# Altium schematic symbol library maxim.SCHLIB: 502 symbols (part 2 of 4)
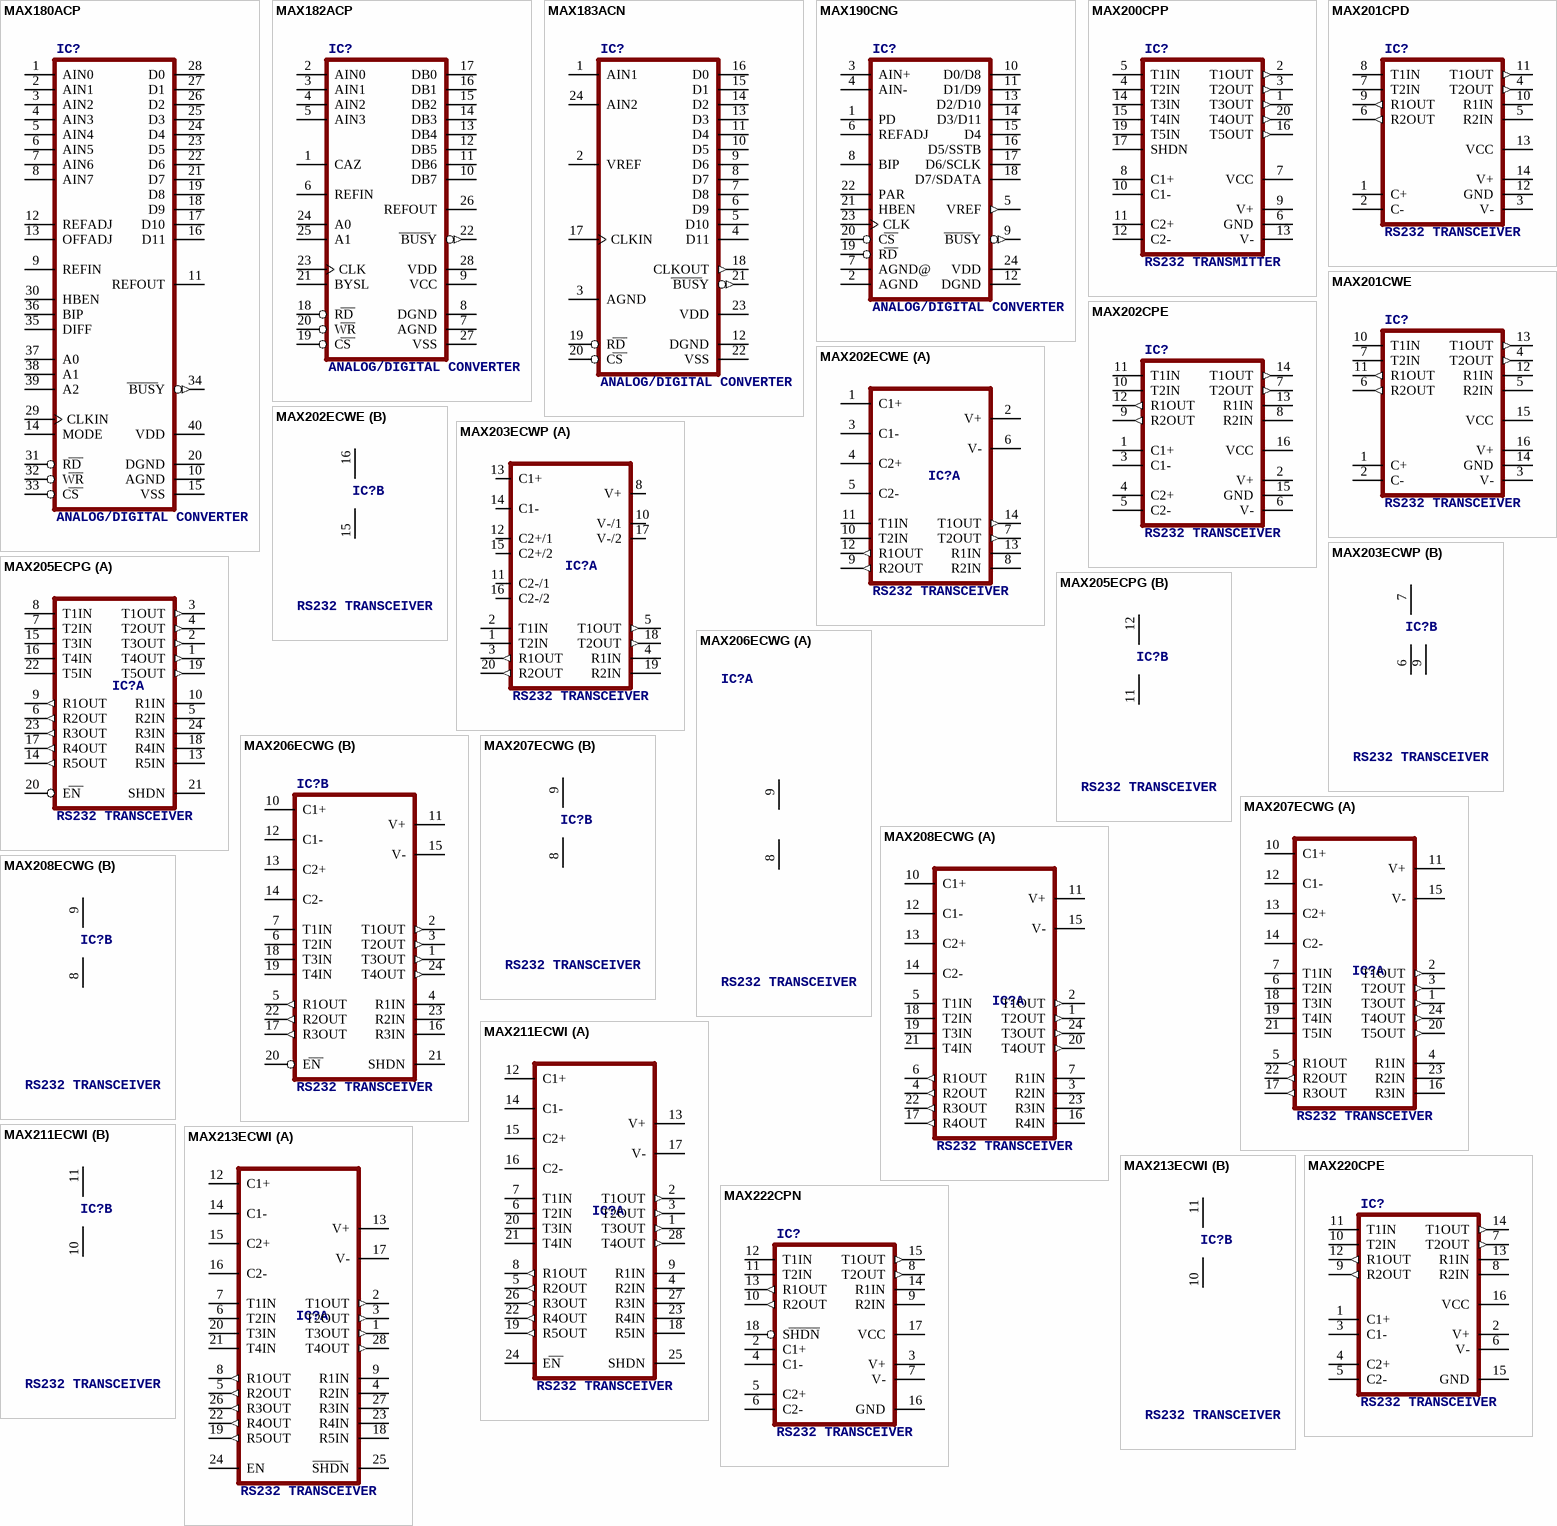
[diagram p31: symbols MAX180ACP to MAX222CPN]

## MAX200CPP
designator IC?, comment RS232 TRANSMITTER
OC_FARNELL: unknown; OC_NEWARK: unknown
footprint DIL20
pins: 1 T3OUT (out), 2 T1OUT (out), 3 T2OUT (out), 4 T2IN, 5 T1IN, 6 GND (power), 7 VCC (power), 8 C1+, 9 V+ (oe), 10 C1-, 11 C2+, 12 C2-, 13 V- (oe), 14 T3IN, 15 T4IN, 16 T5OUT (out), 17 SHDN, 19 T5IN, 20 T4OUT (out)

## MAX201CPD
designator IC?, comment RS232 TRANSCEIVER
MPN: MAX201CPD+; OC_FARNELL: unknown; OC_NEWARK: 89K3430
footprint DIL14
pins: 1 C+, 2 C-, 3 V- (oe), 4 T2OUT (out), 5 R2IN, 6 R2OUT (out), 7 T2IN, 8 T1IN, 9 R1OUT (out), 10 R1IN, 11 T1OUT (out), 12 GND (power), 13 VCC (power), 14 V+ (oe)

## MAX201CWE
designator IC?, comment RS232 TRANSCEIVER
MPN: MAX201CWE+; MF: MAXIM; OC_FARNELL: 1836338; OC_NEWARK: 23K5792
footprint SO16L
pins: 1 C+, 2 C-, 3 V- (oe), 4 T2OUT (out), 5 R2IN, 6 R2OUT (out), 7 T2IN, 10 T1IN, 11 R1OUT (out), 12 R1IN, 13 T1OUT (out), 14 GND (power), 15 VCC (power), 16 V+ (oe)

## MAX202CPE
designator IC?, comment RS232 TRANSCEIVER
MPN: MAX202CPE+; MF: MAXIM; OC_FARNELL: 9723803; OC_NEWARK: 68K4531
footprint DIL16
pins: 1 C1+, 2 V+ (oe), 3 C1-, 4 C2+, 5 C2-, 6 V- (oe), 7 T2OUT (out), 8 R2IN, 9 R2OUT (out), 10 T2IN, 11 T1IN, 12 R1OUT (out), 13 R1IN, 14 T1OUT (out), 15 GND (power), 16 VCC (power)

## MAX202ECWE
designator IC?, comment RS232 TRANSCEIVER
MPN: MAX202ECWE+T; OC_FARNELL: 9724419; OC_NEWARK: 67K4364
footprint SO16L
part A pins: 1 C1+, 2 V+, 3 C1-, 4 C2+, 5 C2-, 6 V-, 7 T2OUT (out), 8 R2IN, 9 R2OUT (out), 10 T2IN, 11 T1IN, 12 R1OUT (out), 13 R1IN, 14 T1OUT (out)
part B pins: 15 GND (power), 16 VCC (power)

## MAX203ECWP
designator IC?, comment RS232 TRANSCEIVER
MPN: MAX203ECWP+G36; OC_FARNELL: 1224204; OC_NEWARK: 89K3435
footprint SO20L
part A pins: 1 T2IN, 2 T1IN, 3 R1OUT (out), 4 R1IN, 5 T1OUT (out), 8 V+, 10 V-/1, 11 C2-/1, 12 C2+/1, 13 C1+, 14 C1-, 15 C2+/2, 16 C2-/2, 17 V-/2, 18 T2OUT (out), 19 R2IN, 20 R2OUT (out)
part B pins: 6 GND@1 (power), 7 VCC (power), 9 GND@2 (power)

## MAX205ECPG
designator IC?, comment RS232 TRANSCEIVER
MPN: MAX205ECPG; OC_FARNELL: unknown; OC_NEWARK: 77C8455
footprint DIL24-6
part A pins: 1 T4OUT (out), 2 T3OUT (out), 3 T1OUT (out), 4 T2OUT (out), 5 R2IN, 6 R2OUT (out), 7 T2IN, 8 T1IN, 9 R1OUT (out), 10 R1IN, 13 R5IN, 14 R5OUT (out), 15 T3IN, 16 T4IN, 17 R4OUT (out), 18 R4IN, 19 T5OUT (out), 20 EN, 21 SHDN, 22 T5IN, 23 R3OUT (out), 24 R3IN
part B pins: 11 GND (power), 12 VCC (power)

## MAX206ECWG
designator IC?, comment RS232 TRANSCEIVER
MPN: MAX206ECWG+; MF: MAXIM; OC_FARNELL: unknown; OC_NEWARK: 59J2964
footprint SO24L
part A pins: 8 GND (power), 9 VCC (power)
part B pins: 1 T3OUT (out), 2 T1OUT (out), 3 T2OUT (out), 4 R1IN, 5 R1OUT (out), 6 T2IN, 7 T1IN, 10 C1+, 11 V+, 12 C1-, 13 C2+, 14 C2-, 15 V-, 16 R3IN, 17 R3OUT (out), 18 T3IN, 19 T4IN, 20 EN, 21 SHDN, 22 R2OUT (out), 23 R2IN, 24 T4OUT (out)

## MAX207ECWG
designator IC?, comment RS232 TRANSCEIVER
MPN: MAX207ECWG+; MF: MAXIM; OC_FARNELL: unknown; OC_NEWARK: 28K3258
footprint SO24L
part A pins: 1 T3OUT (out), 2 T1OUT (out), 3 T2OUT (out), 4 R1IN, 5 R1OUT (out), 6 T2IN, 7 T1IN, 10 C1+, 11 V+, 12 C1-, 13 C2+, 14 C2-, 15 V-, 16 R3IN, 17 R3OUT (out), 18 T3IN, 19 T4IN, 20 T5OUT (out), 21 T5IN, 22 R2OUT (out), 23 R2IN, 24 T4OUT (out)
part B pins: 8 GND (power), 9 VCC (power)

## MAX208ECWG
designator IC?, comment RS232 TRANSCEIVER
MPN: MAX208ECWG+; OC_FARNELL: unknown; OC_NEWARK: 67K4386
footprint SO24L
part A pins: 1 T2OUT (out), 2 T1OUT (out), 3 R2IN, 4 R2OUT (out), 5 T1IN, 6 R1OUT (out), 7 R1IN, 10 C1+, 11 V+, 12 C1-, 13 C2+, 14 C2-, 15 V-, 16 R4IN, 17 R4OUT (out), 18 T2IN, 19 T3IN, 20 T4OUT (out), 21 T4IN, 22 R3OUT (out), 23 R3IN, 24 T3OUT (out)
part B pins: 8 GND (power), 9 VCC (power)

## MAX211ECWI
designator IC?, comment RS232 TRANSCEIVER
MPN: MAX211ECWI+T; OC_FARNELL: unknown; OC_NEWARK: 67K4400
footprint SO28L
part A pins: 1 T3OUT (out), 2 T1OUT (out), 3 T2OUT (out), 4 R2IN, 5 R2OUT (out), 6 T2IN, 7 T1IN, 8 R1OUT (out), 9 R1IN, 12 C1+, 13 V+, 14 C1-, 15 C2+, 16 C2-, 17 V-, 18 R5IN, 19 R5OUT (out), 20 T3IN, 21 T4IN, 22 R4OUT (out), 23 R4IN, 24 EN, 25 SHDN, 26 R3OUT (out), 27 R3IN, 28 T4OUT (out)
part B pins: 10 GND (power), 11 VCC (power)

## MAX213ECWI
designator IC?, comment RS232 TRANSCEIVER
MPN: MAX213ECWI+; MF: MAXIM; OC_FARNELL: unknown; OC_NEWARK: 23K5828
footprint SO28L
part A pins: 1 T3OUT (out), 2 T1OUT (out), 3 T2OUT (out), 4 R2IN, 5 R2OUT (out), 6 T2IN, 7 T1IN, 8 R1OUT (out), 9 R1IN, 12 C1+, 13 V+, 14 C1-, 15 C2+, 16 C2-, 17 V-, 18 R5IN, 19 R5OUT (out), 20 T3IN, 21 T4IN, 22 R4OUT (out), 23 R4IN, 24 EN, 25 SHDN, 26 R3OUT (out), 27 R3IN, 28 T4OUT (out)
part B pins: 10 GND (power), 11 VCC (power)

## MAX220CPE
designator IC?, comment RS232 TRANSCEIVER
MPN: MAX220CPE+; OC_FARNELL: 1187947; OC_NEWARK: 99K3108
footprint DIL16
pins: 1 C1+, 2 V+ (oe), 3 C1-, 4 C2+, 5 C2-, 6 V- (oe), 7 T2OUT (out), 8 R2IN, 9 R2OUT (out), 10 T2IN, 11 T1IN, 12 R1OUT (out), 13 R1IN, 14 T1OUT (out), 15 GND (power), 16 VCC (power)

## MAX222CPN
designator IC?, comment RS232 TRANSCEIVER
MPN: MAX222CPN+; OC_FARNELL: 1187926; OC_NEWARK: 76K6649
footprint DIL18
pins: 2 C1+, 3 V+ (oe), 4 C1-, 5 C2+, 6 C2-, 7 V- (oe), 8 T2OUT (out), 9 R2IN, 10 R2OUT (out), 11 T2IN, 12 T1IN, 13 R1OUT (out), 14 R1IN, 15 T1OUT (out), 16 GND (power), 17 VCC (power), 18 SHDN

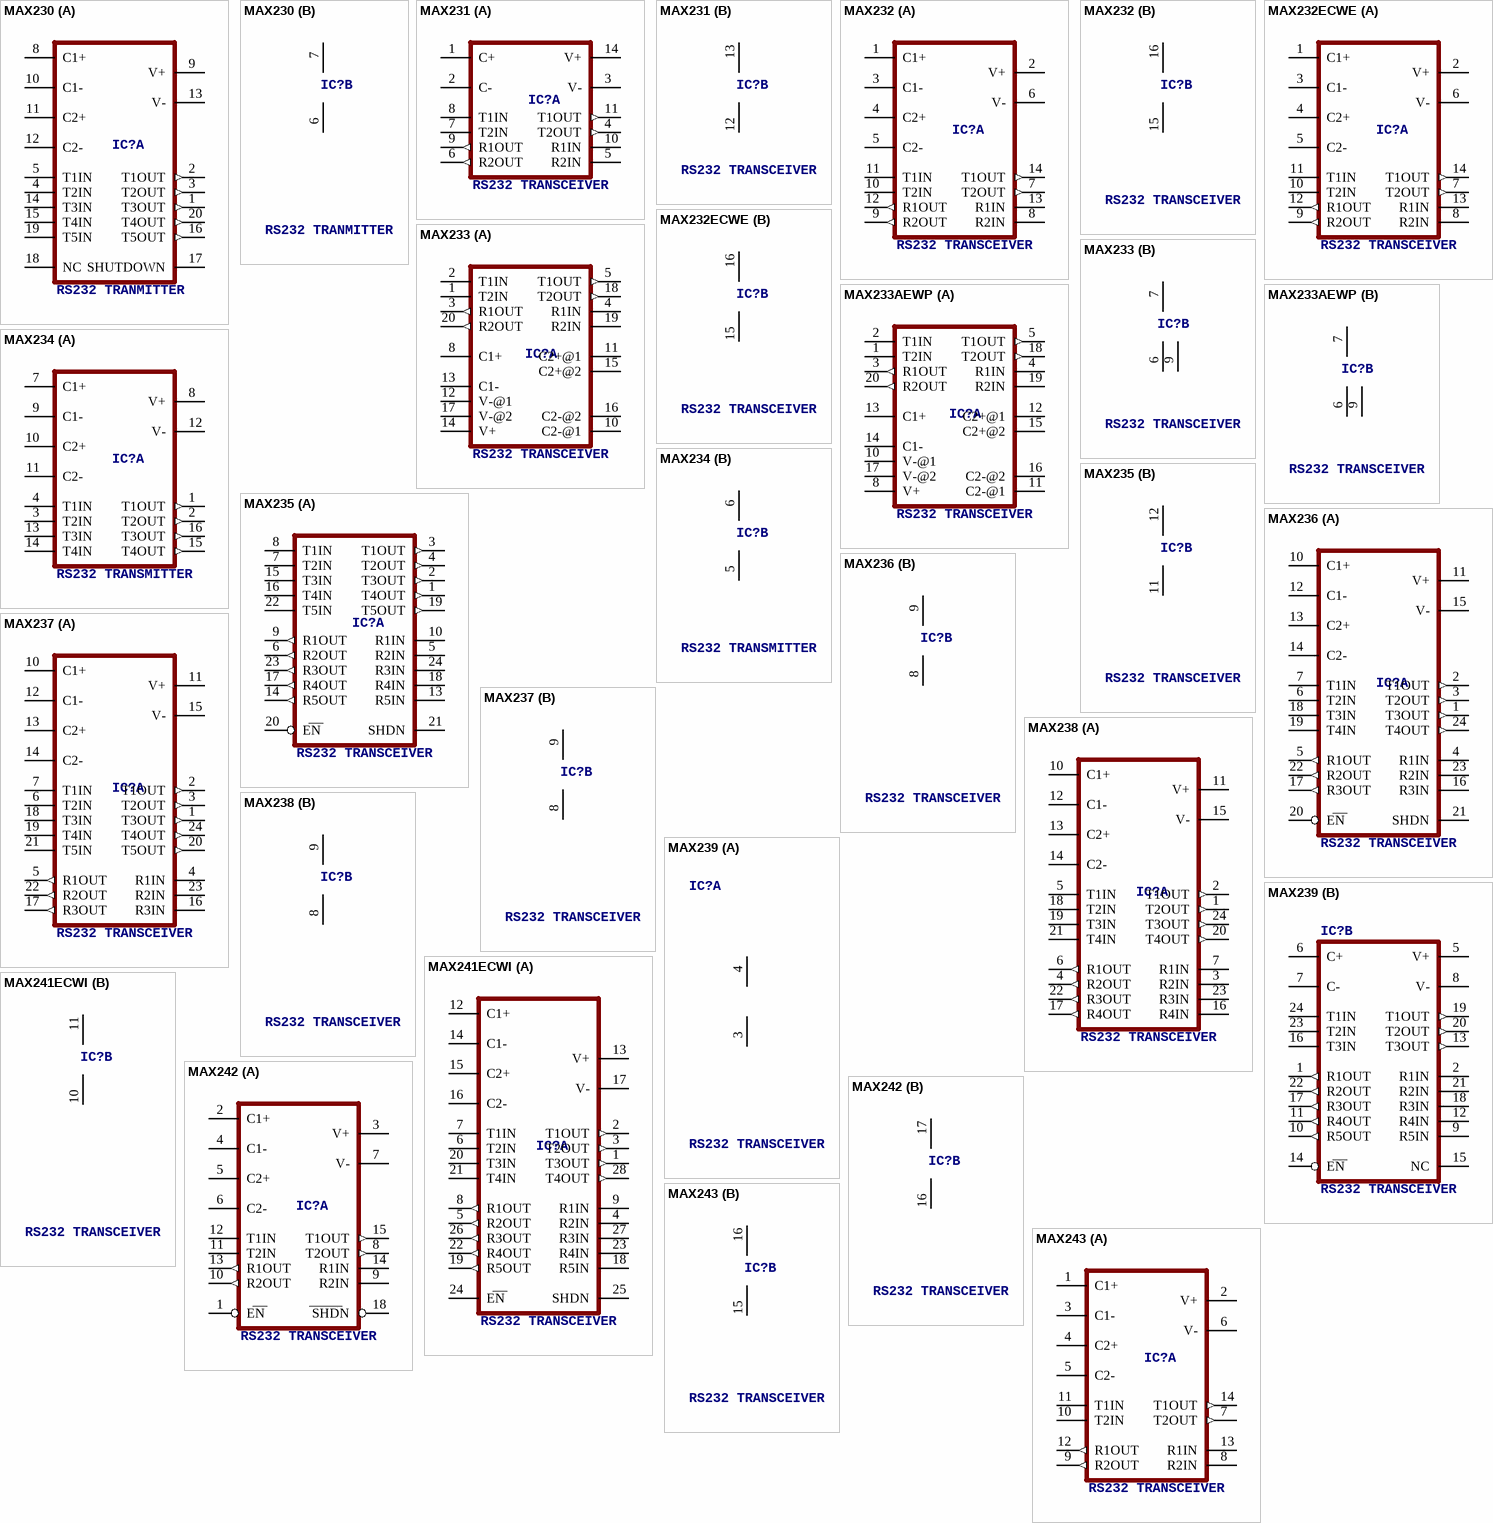
[diagram p10: symbols MAX230 to MAX243]

## MAX230
designator IC?, comment RS232 TRANMITTER
MPN: MAX230CPP+; OC_FARNELL: unknown; OC_NEWARK: 28M0326
footprint DIL20
part A pins: 1 T3OUT (out), 2 T1OUT (out), 3 T2OUT (out), 4 T2IN, 5 T1IN, 8 C1+, 9 V+, 10 C1-, 11 C2+, 12 C2-, 13 V-, 14 T3IN, 15 T4IN, 16 T5OUT (out), 17 SHUTDOWN, 18 NC, 19 T5IN, 20 T4OUT (out)
part B pins: 6 GND (power), 7 VCC (power)

## MAX231
designator IC?, comment RS232 TRANSCEIVER
MPN: MAX231CPD+; MF: MAXIM; OC_FARNELL: 9725164; OC_NEWARK: 28K3272
footprint DIL14
part A pins: 1 C+, 2 C-, 3 V-, 4 T2OUT (out), 5 R2IN, 6 R2OUT (out), 7 T2IN, 8 T1IN, 9 R1OUT (out), 10 R1IN, 11 T1OUT (out), 14 V+
part B pins: 12 GND (power), 13 VCC (power)

## MAX232
designator IC?, comment RS232 TRANSCEIVER
MPN: MAX232ACPE+; MF: MAXIM; OC_FARNELL: 9723773; OC_NEWARK: 68K4544
footprint DIL16
part A pins: 1 C1+, 2 V+, 3 C1-, 4 C2+, 5 C2-, 6 V-, 7 T2OUT (out), 8 R2IN, 9 R2OUT (out), 10 T2IN, 11 T1IN, 12 R1OUT (out), 13 R1IN, 14 T1OUT (out)
part B pins: 15 GND (power), 16 VCC (power)

## MAX232ECWE
designator IC?, comment RS232 TRANSCEIVER
MPN: MAX232ECWE+; MF: MAXIM; OC_FARNELL: 9724435; OC_NEWARK: 67K4440
footprint SO16L
part A pins: 1 C1+, 2 V+, 3 C1-, 4 C2+, 5 C2-, 6 V-, 7 T2OUT (out), 8 R2IN, 9 R2OUT (out), 10 T2IN, 11 T1IN, 12 R1OUT (out), 13 R1IN, 14 T1OUT (out)
part B pins: 15 GND (power), 16 VCC (power)

## MAX233
designator IC?, comment RS232 TRANSCEIVER
MPN: MAX233ACPP+G36; OC_FARNELL: 1593332; OC_NEWARK: 89K3459
footprint DIL20
part A pins: 1 T2IN, 2 T1IN, 3 R1OUT (out), 4 R1IN, 5 T1OUT (out), 8 C1+, 10 C2-@1, 11 C2+@1, 12 V-@1, 13 C1-, 14 V+, 15 C2+@2, 16 C2-@2, 17 V-@2, 18 T2OUT (out), 19 R2IN, 20 R2OUT (out)
part B pins: 6 GND@1 (power), 7 VCC (power), 9 GND@2 (power)

## MAX233AEWP
designator IC?, comment RS232 TRANSCEIVER
MPN: MAX233AEWP+G36; OC_FARNELL: unknown; OC_NEWARK: 89K3461
footprint SO20L
part A pins: 1 T2IN, 2 T1IN, 3 R1OUT (out), 4 R1IN, 5 T1OUT (out), 8 V+, 10 V-@1, 11 C2-@1, 12 C2+@1, 13 C1+, 14 C1-, 15 C2+@2, 16 C2-@2, 17 V-@2, 18 T2OUT (out), 19 R2IN, 20 R2OUT (out)
part B pins: 6 GND@1 (power), 7 VCC (power), 9 GND@2 (power)

## MAX234
designator IC?, comment RS232 TRANSMITTER
MPN: MAX234CPE+; OC_FARNELL: 1187976; OC_NEWARK: 65K6773
footprint DIL16
part A pins: 1 T1OUT (out), 2 T2OUT (out), 3 T2IN, 4 T1IN, 7 C1+, 8 V+, 9 C1-, 10 C2+, 11 C2-, 12 V-, 13 T3IN, 14 T4IN, 15 T4OUT (out), 16 T3OUT (out)
part B pins: 5 GND (power), 6 VCC (power)

## MAX235
designator IC?, comment RS232 TRANSCEIVER
MPN: MAX235CPG+G36; OC_FARNELL: 1593334; OC_NEWARK: 19M9592
footprint DIL24-6
part A pins: 1 T4OUT (out), 2 T3OUT (out), 3 T1OUT (out), 4 T2OUT (out), 5 R2IN, 6 R2OUT (out), 7 T2IN, 8 T1IN, 9 R1OUT (out), 10 R1IN, 13 R5IN, 14 R5OUT (out), 15 T3IN, 16 T4IN, 17 R4OUT (out), 18 R4IN, 19 T5OUT (out), 20 EN, 21 SHDN, 22 T5IN, 23 R3OUT (out), 24 R3IN
part B pins: 11 GND (power), 12 VCC (power)

## MAX236
designator IC?, comment RS232 TRANSCEIVER
MPN: MAX236CNG+; MF: MAXIM; OC_FARNELL: unknown; OC_NEWARK: 23K5834
footprint DIL24-3
part A pins: 1 T3OUT (out), 2 T1OUT (out), 3 T2OUT (out), 4 R1IN, 5 R1OUT (out), 6 T2IN, 7 T1IN, 10 C1+, 11 V+, 12 C1-, 13 C2+, 14 C2-, 15 V-, 16 R3IN, 17 R3OUT (out), 18 T3IN, 19 T4IN, 20 EN, 21 SHDN, 22 R2OUT (out), 23 R2IN, 24 T4OUT (out)
part B pins: 8 GND (power), 9 VCC (power)

## MAX237
designator IC?, comment RS232 TRANSCEIVER
MPN: MAX237CNG+; OC_FARNELL: unknown; OC_NEWARK: 67K4447
footprint DIL24-3
part A pins: 1 T3OUT (out), 2 T1OUT (out), 3 T2OUT (out), 4 R1IN, 5 R1OUT (out), 6 T2IN, 7 T1IN, 10 C1+, 11 V+, 12 C1-, 13 C2+, 14 C2-, 15 V-, 16 R3IN, 17 R3OUT (out), 18 T3IN, 19 T4IN, 20 T5OUT (out), 21 T5IN, 22 R2OUT (out), 23 R2IN, 24 T4OUT (out)
part B pins: 8 GND (power), 9 VCC (power)

## MAX238
designator IC?, comment RS232 TRANSCEIVER
OC_FARNELL: 9725180; OC_NEWARK: unknown
footprint DIL24-3
part A pins: 1 T2OUT (out), 2 T1OUT (out), 3 R2IN, 4 R2OUT (out), 5 T1IN, 6 R1OUT (out), 7 R1IN, 10 C1+, 11 V+, 12 C1-, 13 C2+, 14 C2-, 15 V-, 16 R4IN, 17 R4OUT (out), 18 T2IN, 19 T3IN, 20 T4OUT (out), 21 T4IN, 22 R3OUT (out), 23 R3IN, 24 T3OUT (out)
part B pins: 8 GND (power), 9 VCC (power)

## MAX239
designator IC?, comment RS232 TRANSCEIVER
MPN: MAX239CNG+; MF: MAXIM; OC_FARNELL: unknown; OC_NEWARK: 37K7894
footprint DIL24-3
part A pins: 3 GND (power), 4 VCC (power)
part B pins: 1 R1OUT (out), 2 R1IN, 5 V+, 6 C+, 7 C-, 8 V-, 9 R5IN, 10 R5OUT (out), 11 R4OUT (out), 12 R4IN, 13 T3OUT (out), 14 EN, 15 NC, 16 T3IN, 17 R3OUT (out), 18 R3IN, 19 T1OUT (out), 20 T2OUT (out), 21 R2IN, 22 R2OUT (out), 23 T2IN, 24 T1IN

## MAX241ECWI
designator IC?, comment RS232 TRANSCEIVER
MPN: MAX241ECWI+; MF: MAXIM; OC_FARNELL: unknown; OC_NEWARK: 23K5839
footprint SO28L
part A pins: 1 T3OUT (out), 2 T1OUT (out), 3 T2OUT (out), 4 R2IN, 5 R2OUT (out), 6 T2IN, 7 T1IN, 8 R1OUT (out), 9 R1IN, 12 C1+, 13 V+, 14 C1-, 15 C2+, 16 C2-, 17 V-, 18 R5IN, 19 R5OUT (out), 20 T3IN, 21 T4IN, 22 R4OUT (out), 23 R4IN, 24 EN, 25 SHDN, 26 R3OUT (out), 27 R3IN, 28 T4OUT (out)
part B pins: 10 GND (power), 11 VCC (power)

## MAX242
designator IC?, comment RS232 TRANSCEIVER
MPN: MAX242CPN+; OC_FARNELL: unknown; OC_NEWARK: 99K3109
footprint DIL18
part A pins: 1 EN, 2 C1+, 3 V+, 4 C1-, 5 C2+, 6 C2-, 7 V-, 8 T2OUT (out), 9 R2IN, 10 R2OUT (out), 11 T2IN, 12 T1IN, 13 R1OUT (out), 14 R1IN, 15 T1OUT (out), 18 SHDN
part B pins: 16 GND (power), 17 VCC (power)

## MAX243
designator IC?, comment RS232 TRANSCEIVER
OC_FARNELL: unknown; OC_NEWARK: unknown
footprint DIL16
part A pins: 1 C1+, 2 V+, 3 C1-, 4 C2+, 5 C2-, 6 V-, 7 T2OUT (out), 8 R2IN, 9 R2OUT (out), 10 T2IN, 11 T1IN, 12 R1OUT (out), 13 R1IN, 14 T1OUT (out)
part B pins: 15 GND (power), 16 VCC (power)

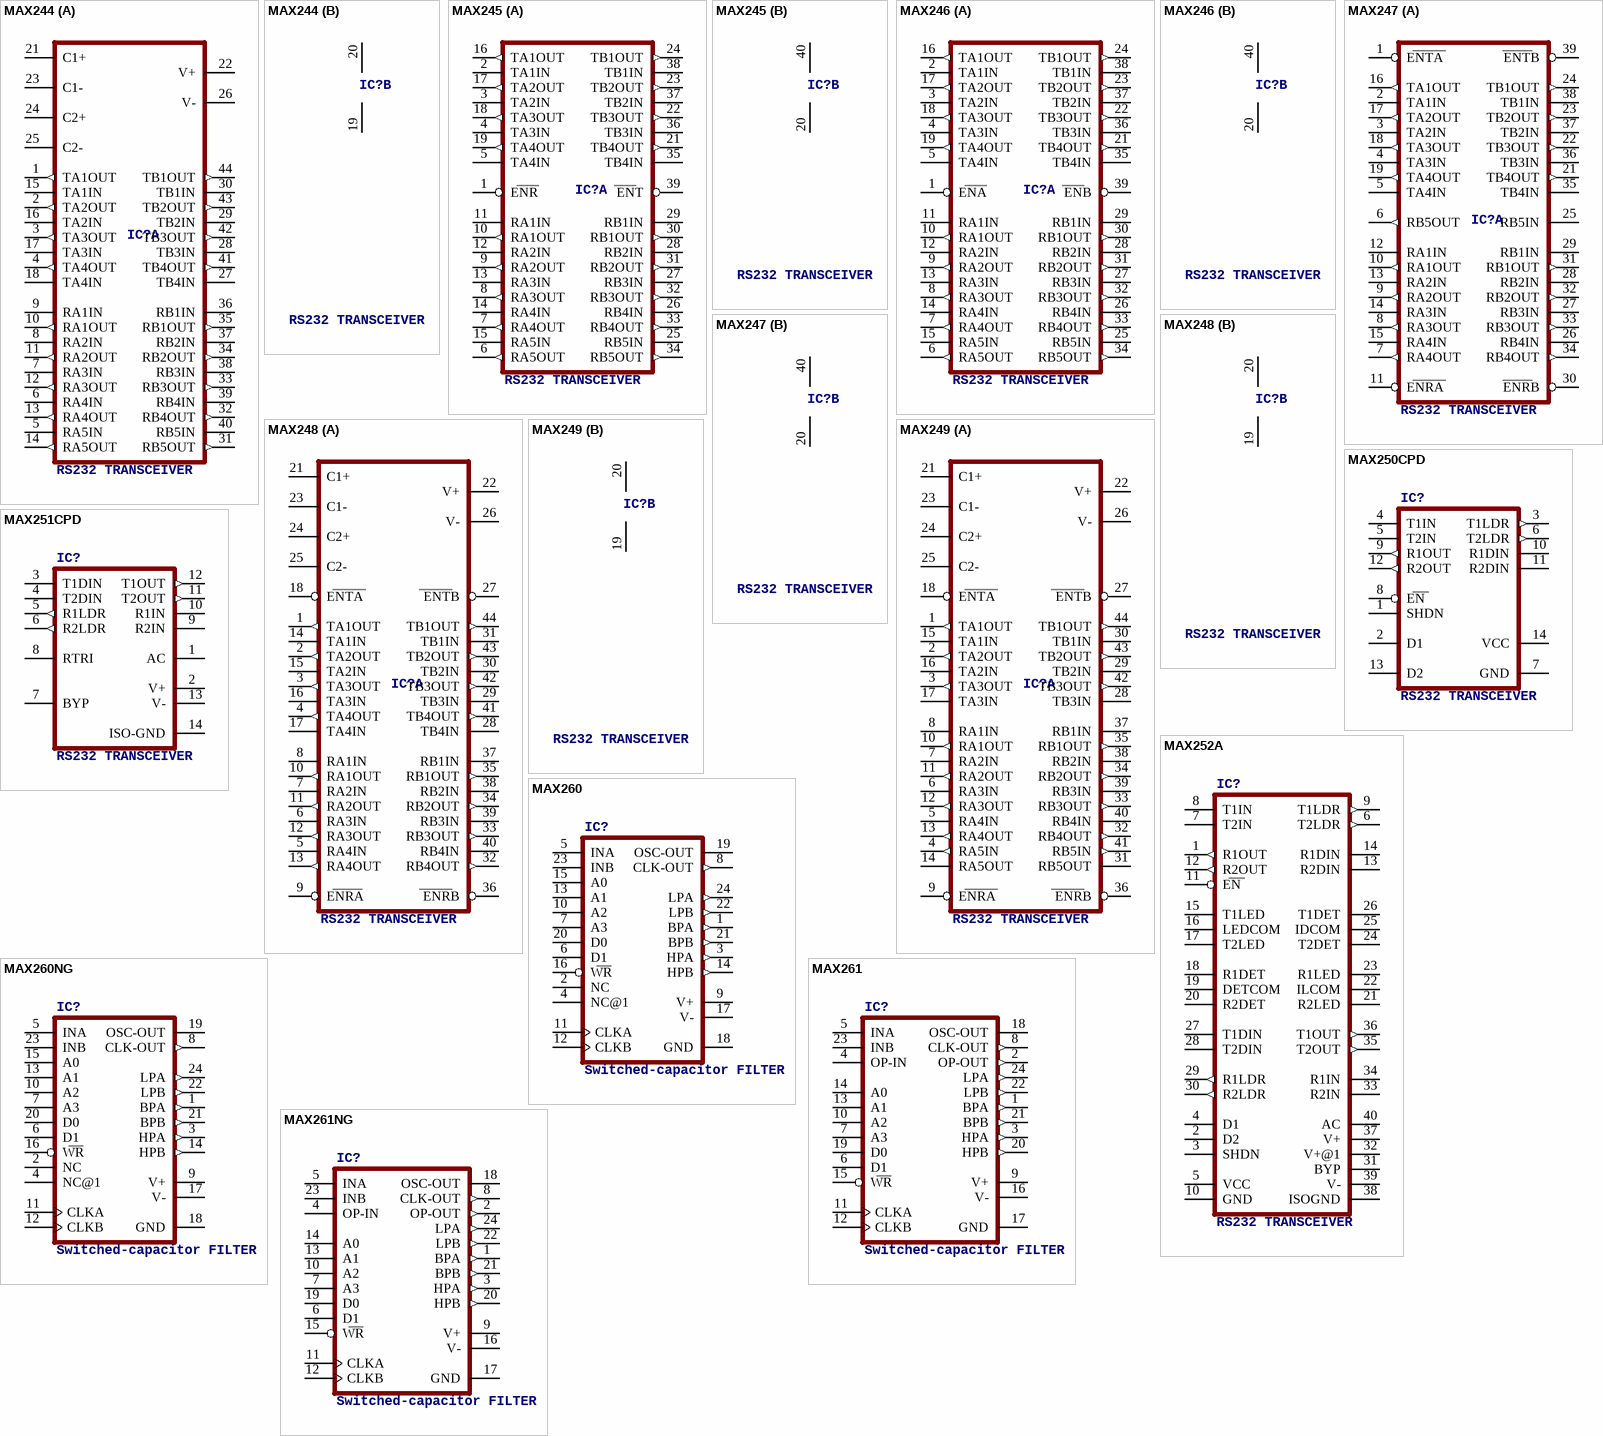
[diagram p11: symbols MAX244 to MAX261NG]

## MAX244
designator IC?, comment RS232 TRANSCEIVER
OC_FARNELL: unknown; OC_NEWARK: unknown
footprint PLCC44
part A pins: 1 TA1OUT (out), 2 TA2OUT (out), 3 TA3OUT (out), 4 TA4OUT (out), 5 RA5IN, 6 RA4IN, 7 RA3IN, 8 RA2IN, 9 RA1IN, 10 RA1OUT (out), 11 RA2OUT (out), 12 RA3OUT (out), 13 RA4OUT (out), 14 RA5OUT (out), 15 TA1IN, 16 TA2IN, 17 TA3IN, 18 TA4IN, 21 C1+, 22 V+, 23 C1-, 24 C2+, 25 C2-, 26 V-, 27 TB4IN, 28 TB3IN, 29 TB2IN, 30 TB1IN, 31 RB5OUT (out), 32 RB4OUT (out), 33 RB3OUT (out), 34 RB2OUT (out), 35 RB1OUT (out), 36 RB1IN, 37 RB2IN, 38 RB3IN, 39 RB4IN, 40 RB5IN, 41 TB4OUT (out), 42 TB3OUT (out), 43 TB2OUT (out), 44 TB1OUT (out)
part B pins: 19 GND (power), 20 VCC (power)

## MAX245
designator IC?, comment RS232 TRANSCEIVER
OC_FARNELL: unknown; OC_NEWARK: unknown
footprint DIL40
part A pins: 1 ENR, 2 TA1IN, 3 TA2IN, 4 TA3IN, 5 TA4IN, 6 RA5OUT (out), 7 RA4OUT (out), 8 RA3OUT (out), 9 RA2OUT (out), 10 RA1OUT (out), 11 RA1IN, 12 RA2IN, 13 RA3IN, 14 RA4IN, 15 RA5IN, 16 TA1OUT (out), 17 TA2OUT (out), 18 TA3OUT (out), 19 TA4OUT (out), 21 TB4OUT (out), 22 TB3OUT (out), 23 TB2OUT (out), 24 TB1OUT (out), 25 RB5IN, 26 RB4IN, 27 RB3IN, 28 RB2IN, 29 RB1IN, 30 RB1OUT (out), 31 RB2OUT (out), 32 RB3OUT (out), 33 RB4OUT (out), 34 RB5OUT (out), 35 TB4IN, 36 TB3IN, 37 TB2IN, 38 TB1IN, 39 ENT
part B pins: 20 GND (power), 40 VCC (power)

## MAX246
designator IC?, comment RS232 TRANSCEIVER
OC_FARNELL: unknown; OC_NEWARK: unknown
footprint DIL40
part A pins: 1 ENA, 2 TA1IN, 3 TA2IN, 4 TA3IN, 5 TA4IN, 6 RA5OUT (out), 7 RA4OUT (out), 8 RA3OUT (out), 9 RA2OUT (out), 10 RA1OUT (out), 11 RA1IN, 12 RA2IN, 13 RA3IN, 14 RA4IN, 15 RA5IN, 16 TA1OUT (out), 17 TA2OUT (out), 18 TA3OUT (out), 19 TA4OUT (out), 21 TB4OUT (out), 22 TB3OUT (out), 23 TB2OUT (out), 24 TB1OUT (out), 25 RB5IN, 26 RB4IN, 27 RB3IN, 28 RB2IN, 29 RB1IN, 30 RB1OUT (out), 31 RB2OUT (out), 32 RB3OUT (out), 33 RB4OUT (out), 34 RB5OUT (out), 35 TB4IN, 36 TB3IN, 37 TB2IN, 38 TB1IN, 39 ENB
part B pins: 20 GND (power), 40 VCC (power)

## MAX247
designator IC?, comment RS232 TRANSCEIVER
OC_FARNELL: unknown; OC_NEWARK: unknown
footprint DIL40
part A pins: 1 ENTA, 2 TA1IN, 3 TA2IN, 4 TA3IN, 5 TA4IN, 6 RB5OUT (out), 7 RA4OUT (out), 8 RA3OUT (out), 9 RA2OUT (out), 10 RA1OUT (out), 11 ENRA, 12 RA1IN, 13 RA2IN, 14 RA3IN, 15 RA4IN, 16 TA1OUT (out), 17 TA2OUT (out), 18 TA3OUT (out), 19 TA4OUT (out), 21 TB4OUT (out), 22 TB3OUT (out), 23 TB2OUT (out), 24 TB1OUT (out), 25 RB5IN, 26 RB4IN, 27 RB3IN, 28 RB2IN, 29 RB1IN, 30 ENRB, 31 RB1OUT (out), 32 RB2OUT (out), 33 RB3OUT (out), 34 RB4OUT (out), 35 TB4IN, 36 TB3IN, 37 TB2IN, 38 TB1IN, 39 ENTB
part B pins: 20 GND (power), 40 VCC (power)

## MAX248
designator IC?, comment RS232 TRANSCEIVER
MPN: MAX248CQH+D; OC_FARNELL: unknown; OC_NEWARK: 73K8523
footprint PLCC44
part A pins: 1 TA1OUT (out), 2 TA2OUT (out), 3 TA3OUT (out), 4 TA4OUT (out), 5 RA4IN, 6 RA3IN, 7 RA2IN, 8 RA1IN, 9 ENRA, 10 RA1OUT (out), 11 RA2OUT (out), 12 RA3OUT (out), 13 RA4OUT (out), 14 TA1IN, 15 TA2IN, 16 TA3IN, 17 TA4IN, 18 ENTA, 21 C1+, 22 V+, 23 C1-, 24 C2+, 25 C2-, 26 V-, 27 ENTB, 28 TB4IN, 29 TB3IN, 30 TB2IN, 31 TB1IN, 32 RB4OUT (out), 33 RB3OUT (out), 34 RB2OUT (out), 35 RB1OUT (out), 36 ENRB, 37 RB1IN, 38 RB2IN, 39 RB3IN, 40 RB4IN, 41 TB4OUT (out), 42 TB3OUT (out), 43 TB2OUT (out), 44 TB1OUT (out)
part B pins: 19 GND (power), 20 VCC (power)

## MAX249
designator IC?, comment RS232 TRANSCEIVER
OC_FARNELL: unknown; OC_NEWARK: unknown
footprint PLCC44
part A pins: 1 TA1OUT (out), 2 TA2OUT (out), 3 TA3OUT (out), 4 RA5IN (out), 5 RA4IN, 6 RA3IN, 7 RA2IN, 8 RA1IN, 9 ENRA, 10 RA1OUT (out), 11 RA2OUT (out), 12 RA3OUT (out), 13 RA4OUT (out), 14 RA5OUT, 15 TA1IN, 16 TA2IN, 17 TA3IN, 18 ENTA, 21 C1+, 22 V+, 23 C1-, 24 C2+, 25 C2-, 26 V-, 27 ENTB, 28 TB3IN, 29 TB2IN, 30 TB1IN, 31 RB5OUT, 32 RB4OUT (out), 33 RB3OUT (out), 34 RB2OUT (out), 35 RB1OUT (out), 36 ENRB, 37 RB1IN, 38 RB2IN, 39 RB3IN, 40 RB4IN, 41 RB5IN (out), 42 TB3OUT (out), 43 TB2OUT (out), 44 TB1OUT (out)
part B pins: 19 GND (power), 20 VCC (power)

## MAX250CPD
designator IC?, comment RS232 TRANSCEIVER
MPN: MAX250CPD+; MF: MAXIM; OC_FARNELL: 9724540; OC_NEWARK: 67K4495
footprint DIL14
pins: 1 SHDN, 2 D1, 3 T1LDR (out), 4 T1IN, 5 T2IN, 6 T2LDR (out), 7 GND (power), 8 EN, 9 R1OUT (out), 10 R1DIN, 11 R2DIN, 12 R2OUT (out), 13 D2, 14 VCC (power)

## MAX251CPD
designator IC?, comment RS232 TRANSCEIVER
MPN: MAX251CPD+; MF: MAXIM; OC_FARNELL: 9724931; OC_NEWARK: 68K4563
footprint DIL14
pins: 1 AC, 2 V+ (oe), 3 T1DIN, 4 T2DIN, 5 R1LDR (out), 6 R2LDR (out), 7 BYP, 8 RTRI, 9 R2IN, 10 R1IN, 11 T2OUT (out), 12 T1OUT (out), 13 V- (oe), 14 ISO-GND

## MAX252A
designator IC?, comment RS232 TRANSCEIVER
OC_FARNELL: unknown; OC_NEWARK: unknown
footprint DIL40
pins: 1 R1OUT (out), 2 D2, 3 SHDN, 4 D1, 5 VCC (power), 6 T2LDR (out), 7 T2IN, 8 T1IN, 9 T1LDR (out), 10 GND (power), 11 EN, 12 R2OUT (out), 13 R2DIN, 14 R1DIN, 15 T1LED, 16 LEDCOM, 17 T2LED, 18 R1DET, 19 DETCOM, 20 R2DET, 21 R2LED, 22 ILCOM, 23 R1LED, 24 T2DET, 25 IDCOM, 26 T1DET, 27 T1DIN, 28 T2DIN, 29 R1LDR (out), 30 R2LDR (out), 31 BYP, 32 V+@1 (oe), 33 R2IN, 34 R1IN, 35 T2OUT (out), 36 T1OUT (out), 37 V+ (oe), 38 ISOGND (power), 39 V- (oe), 40 AC

## MAX260
designator IC?, comment Switched-capacitor FILTER
MPN: MAX260BCNG+; OC_FARNELL: unknown; OC_NEWARK: 99K3116
footprint DIL24-3
pins: 1 BPA (out), 2 NC, 3 HPA (out), 4 NC@1, 5 INA, 6 D1, 7 A3, 8 CLK-OUT (out), 9 V+ (power), 10 A2, 11 CLKA, 12 CLKB, 13 A1, 14 HPB (out), 15 A0, 16 WR, 17 V- (power), 18 GND (power), 19 OSC-OUT, 20 D0, 21 BPB (out), 22 LPB (out), 23 INB, 24 LPA (out)

## MAX260NG
designator IC?, comment Switched-capacitor FILTER
OC_FARNELL: unknown; OC_NEWARK: unknown
footprint DIL24-6
pins: 1 BPA (out), 2 NC, 3 HPA (out), 4 NC@1, 5 INA, 6 D1, 7 A3, 8 CLK-OUT (out), 9 V+ (power), 10 A2, 11 CLKA, 12 CLKB, 13 A1, 14 HPB (out), 15 A0, 16 WR, 17 V- (power), 18 GND (power), 19 OSC-OUT, 20 D0, 21 BPB (out), 22 LPB (out), 23 INB, 24 LPA (out)

## MAX261
designator IC?, comment Switched-capacitor FILTER
MPN: MAX261BCNG+; OC_FARNELL: unknown; OC_NEWARK: 89K3470
footprint DIL24-3
pins: 1 BPA (out), 2 OP-OUT (out), 3 HPA (out), 4 OP-IN, 5 INA, 6 D1, 7 A3, 8 CLK-OUT (out), 9 V+ (power), 10 A2, 11 CLKA, 12 CLKB, 13 A1, 14 A0, 15 WR, 16 V- (power), 17 GND (power), 18 OSC-OUT, 19 D0, 20 HPB (out), 21 BPB (out), 22 LPB (out), 23 INB, 24 LPA (out)

## MAX261NG
designator IC?, comment Switched-capacitor FILTER
OC_FARNELL: unknown; OC_NEWARK: unknown
footprint DIL24-6
pins: 1 BPA (out), 2 OP-OUT (out), 3 HPA (out), 4 OP-IN, 5 INA, 6 D1, 7 A3, 8 CLK-OUT (out), 9 V+ (power), 10 A2, 11 CLKA, 12 CLKB, 13 A1, 14 A0, 15 WR, 16 V- (power), 17 GND (power), 18 OSC-OUT, 19 D0, 20 HPB (out), 21 BPB (out), 22 LPB (out), 23 INB, 24 LPA (out)

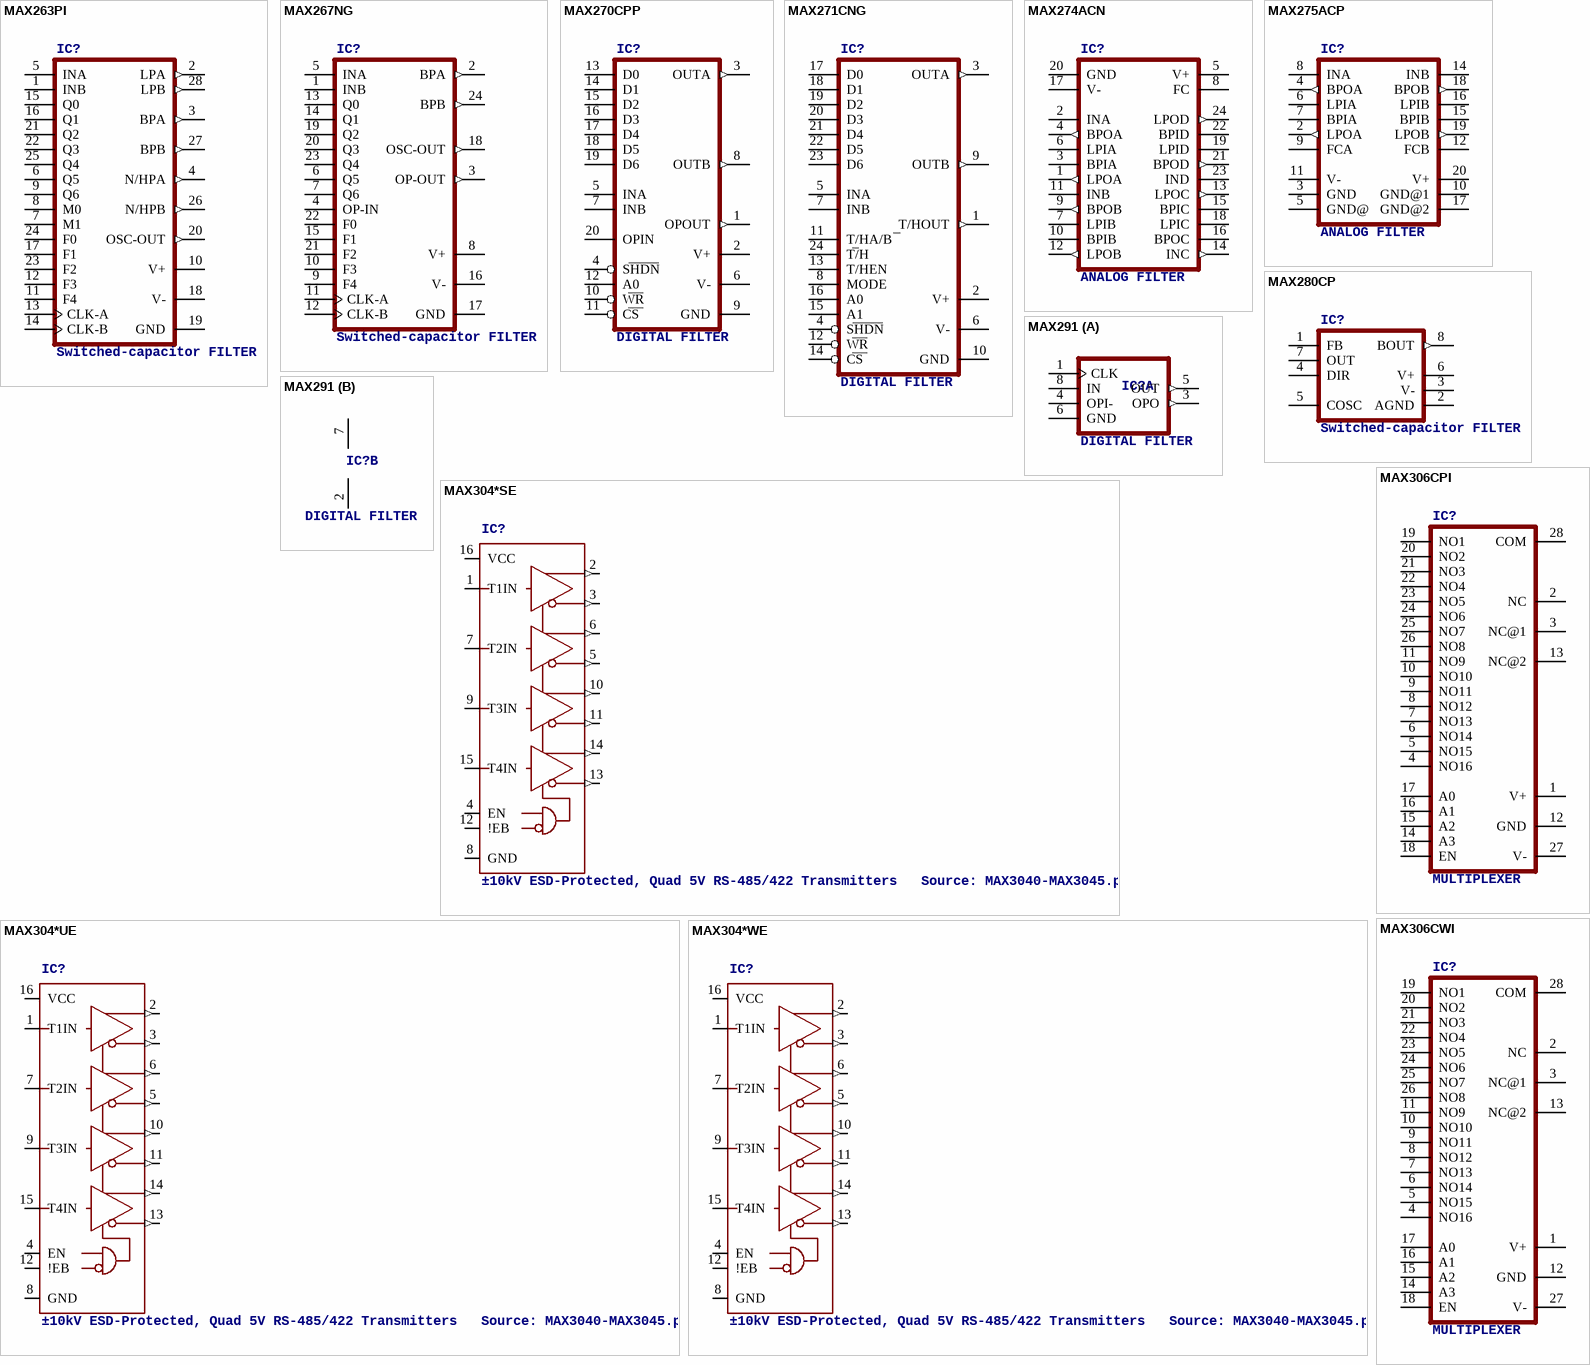
[diagram p12: symbols MAX263PI to MAX306CWI]

## MAX263PI
designator IC?, comment Switched-capacitor FILTER
OC_FARNELL: unknown; OC_NEWARK: unknown
footprint DIL28-6
pins: 1 INB, 2 LPA (out), 3 BPA (out), 4 N/HPA (out), 5 INA, 6 Q5, 7 M1, 8 M0, 9 Q6, 10 V+ (power), 11 F4, 12 F3, 13 CLK-A, 14 CLK-B, 15 Q0, 16 Q1, 17 F1, 18 V- (power), 19 GND (power), 20 OSC-OUT (out), 21 Q2, 22 Q3, 23 F2, 24 F0, 25 Q4, 26 N/HPB (out), 27 BPB (out), 28 LPB (out)

## MAX267NG
designator IC?, comment Switched-capacitor FILTER
OC_FARNELL: unknown; OC_NEWARK: unknown
footprint DIL24-6
pins: 1 INB, 2 BPA (out), 3 OP-OUT (out), 4 OP-IN, 5 INA, 6 Q5, 7 Q6, 8 V+ (power), 9 F4, 10 F3, 11 CLK-A, 12 CLK-B, 13 Q0, 14 Q1, 15 F1, 16 V- (power), 17 GND (power), 18 OSC-OUT (out), 19 Q2, 20 Q3, 21 F2, 22 F0, 23 Q4, 24 BPB (out)

## MAX270CPP
designator IC?, comment DIGITAL FILTER
OC_FARNELL: unknown; OC_NEWARK: unknown
footprint DIL20
pins: 1 OPOUT (out), 2 V+ (power), 3 OUTA (out), 4 SHDN, 5 INA, 6 V- (power), 7 INB, 8 OUTB (out), 9 GND (power), 10 WR, 11 CS, 12 A0, 13 D0, 14 D1, 15 D2, 16 D3, 17 D4, 18 D5, 19 D6, 20 OPIN

## MAX271CNG
designator IC?, comment DIGITAL FILTER
MPN: MAX271CNG+; OC_FARNELL: unknown; OC_NEWARK: 89K3556
footprint DIL24-6
pins: 1 T/HOUT (out), 2 V+ (power), 3 OUTA (out), 4 SHDN, 5 INA, 6 V- (power), 7 INB, 8 MODE, 9 OUTB (out), 10 GND (power), 11 T/HA/B, 12 WR, 13 T/HEN, 14 CS, 15 A1, 16 A0, 17 D0, 18 D1, 19 D2, 20 D3, 21 D4, 22 D5, 23 D6, 24 T/H

## MAX274ACN
designator IC?, comment ANALOG FILTER
OC_FARNELL: unknown; OC_NEWARK: unknown
footprint DIL24-3
pins: 1 LPOA (out), 2 INA, 3 BPIA, 4 BPOA (out), 5 V+ (power), 6 LPIA, 7 LPIB, 8 FC, 9 BPOB (out), 10 BPIB, 11 INB, 12 LPOB (out), 13 LPOC (out), 14 INC (out), 15 BPIC, 16 BPOC, 17 V- (power), 18 LPIC, 19 LPID, 20 GND (power), 21 BPOD (out), 22 BPID, 23 IND, 24 LPOD (out)

## MAX275ACP
designator IC?, comment ANALOG FILTER
MPN: MAX275ACPP+; OC_FARNELL: unknown; OC_NEWARK: 99K3137
footprint DIL20
pins: 2 LPOA (out), 3 GND (power), 4 BPOA (out), 5 GND@ (power), 6 LPIA, 7 BPIA, 8 INA, 9 FCA, 10 GND@1 (power), 11 V- (power), 12 FCB, 14 INB, 15 BPIB, 16 LPIB, 17 GND@2 (power), 18 BPOB (out), 19 LPOB (out), 20 V+ (power)

## MAX280CP
designator IC?, comment Switched-capacitor FILTER
MPN: MAX280CPA+; OC_FARNELL: unknown; OC_NEWARK: 89K3562
footprint DIL08
pins: 1 FB, 2 AGND (power), 3 V- (power), 4 DIR, 5 COSC, 6 V+ (power), 7 OUT, 8 BOUT (out)

## MAX291
designator IC?, comment DIGITAL FILTER
MPN: MAX291CPA+; OC_FARNELL: unknown; OC_NEWARK: 67K4526
footprint DIL08
part A pins: 1 CLK, 3 OPO (out), 4 OPI-, 5 OUT (out), 6 GND (power), 8 IN
part B pins: 2 V- (power), 7 V+ (power)

## MAX304*SE
designator IC?, comment ±10kV ESD-Protected, Quad 5V RS-485/422 Transmitters   Source: MAX3040-MAX3045.pdf
MPN: MAX3043CSE+; MPN: MAX3043ESE+; MPN: MAX3044CSE+; MPN: MAX3044ESE+; MPN: MAX3045BCSE+; MPN: MAX3045BESE+; MF: MAXIM; OC_FARNELL: unknown; OC_NEWARK: 37K7901; OC_NEWARK: 37K7903; OC_NEWARK: 89K3569; OC_NEWARK: 65K6783; OC_NEWARK: 67K4570; OC_NEWARK: 67K4574
footprint SO16
pins: 1 T1IN, 2 Y1 (out), 3 Z1 (out), 4 EN, 5 Z2 (out), 6 Y2 (out), 7 T2IN, 8 GND (power), 9 T3IN, 10 Y3 (out), 11 Z3 (out), 12 !EB, 13 Z4 (out), 14 Y4 (out), 15 T4IN, 16 VCC (power)

## MAX304*UE
designator IC?, comment ±10kV ESD-Protected, Quad 5V RS-485/422 Transmitters   Source: MAX3040-MAX3045.pdf
MPN: MAX3043CUE+; MPN: MAX3043EUE+; MPN: MAX3044CUE+; MPN: MAX3044EUE+; MPN: MAX3045BCUE+; MPN: MAX3045BEUE+; MF: MAXIM; OC_FARNELL: unknown; OC_NEWARK: 42M5431; OC_NEWARK: 59J2979; OC_NEWARK: 53K6607; OC_NEWARK: 53K6609; OC_NEWARK: 67K4572; OC_NEWARK: 67K4576
footprint TSSOP16
pins: 1 T1IN, 2 Y1 (out), 3 Z1 (out), 4 EN, 5 Z2 (out), 6 Y2 (out), 7 T2IN, 8 GND (power), 9 T3IN, 10 Y3 (out), 11 Z3 (out), 12 !EB, 13 Z4 (out), 14 Y4 (out), 15 T4IN, 16 VCC (power)

## MAX304*WE
designator IC?, comment ±10kV ESD-Protected, Quad 5V RS-485/422 Transmitters   Source: MAX3040-MAX3045.pdf
MPN: MAX3045BCWE+; MPN: MAX3045BEWE+; OC_FARNELL: unknown; OC_NEWARK: unknown; OC_NEWARK: 73K8529; OC_NEWARK: 73K8531
footprint SO16L
pins: 1 T1IN, 2 Y1 (out), 3 Z1 (out), 4 EN, 5 Z2 (out), 6 Y2 (out), 7 T2IN, 8 GND (power), 9 T3IN, 10 Y3 (out), 11 Z3 (out), 12 !EB, 13 Z4 (out), 14 Y4 (out), 15 T4IN, 16 VCC (power)

## MAX306CPI
designator IC?, comment MULTIPLEXER
MPN: MAX306CPI; OC_FARNELL: unknown; OC_NEWARK: 90C2554
footprint DIL28-6
pins: 1 V+ (power), 2 NC, 3 NC@1, 4 NO16, 5 NO15, 6 NO14, 7 NO13, 8 NO12, 9 NO11, 10 NO10, 11 NO9, 12 GND (power), 13 NC@2, 14 A3, 15 A2, 16 A1, 17 A0, 18 EN, 19 NO1, 20 NO2, 21 NO3, 22 NO4, 23 NO5, 24 NO6, 25 NO7, 26 NO8, 27 V- (power), 28 COM

## MAX306CWI
designator IC?, comment MULTIPLEXER
MPN: MAX306CWI; MF: MAXIM; OC_FARNELL: unknown; OC_NEWARK: 90C2555
footprint SO28L
pins: 1 V+ (power), 2 NC, 3 NC@1, 4 NO16, 5 NO15, 6 NO14, 7 NO13, 8 NO12, 9 NO11, 10 NO10, 11 NO9, 12 GND (power), 13 NC@2, 14 A3, 15 A2, 16 A1, 17 A0, 18 EN, 19 NO1, 20 NO2, 21 NO3, 22 NO4, 23 NO5, 24 NO6, 25 NO7, 26 NO8, 27 V- (power), 28 COM

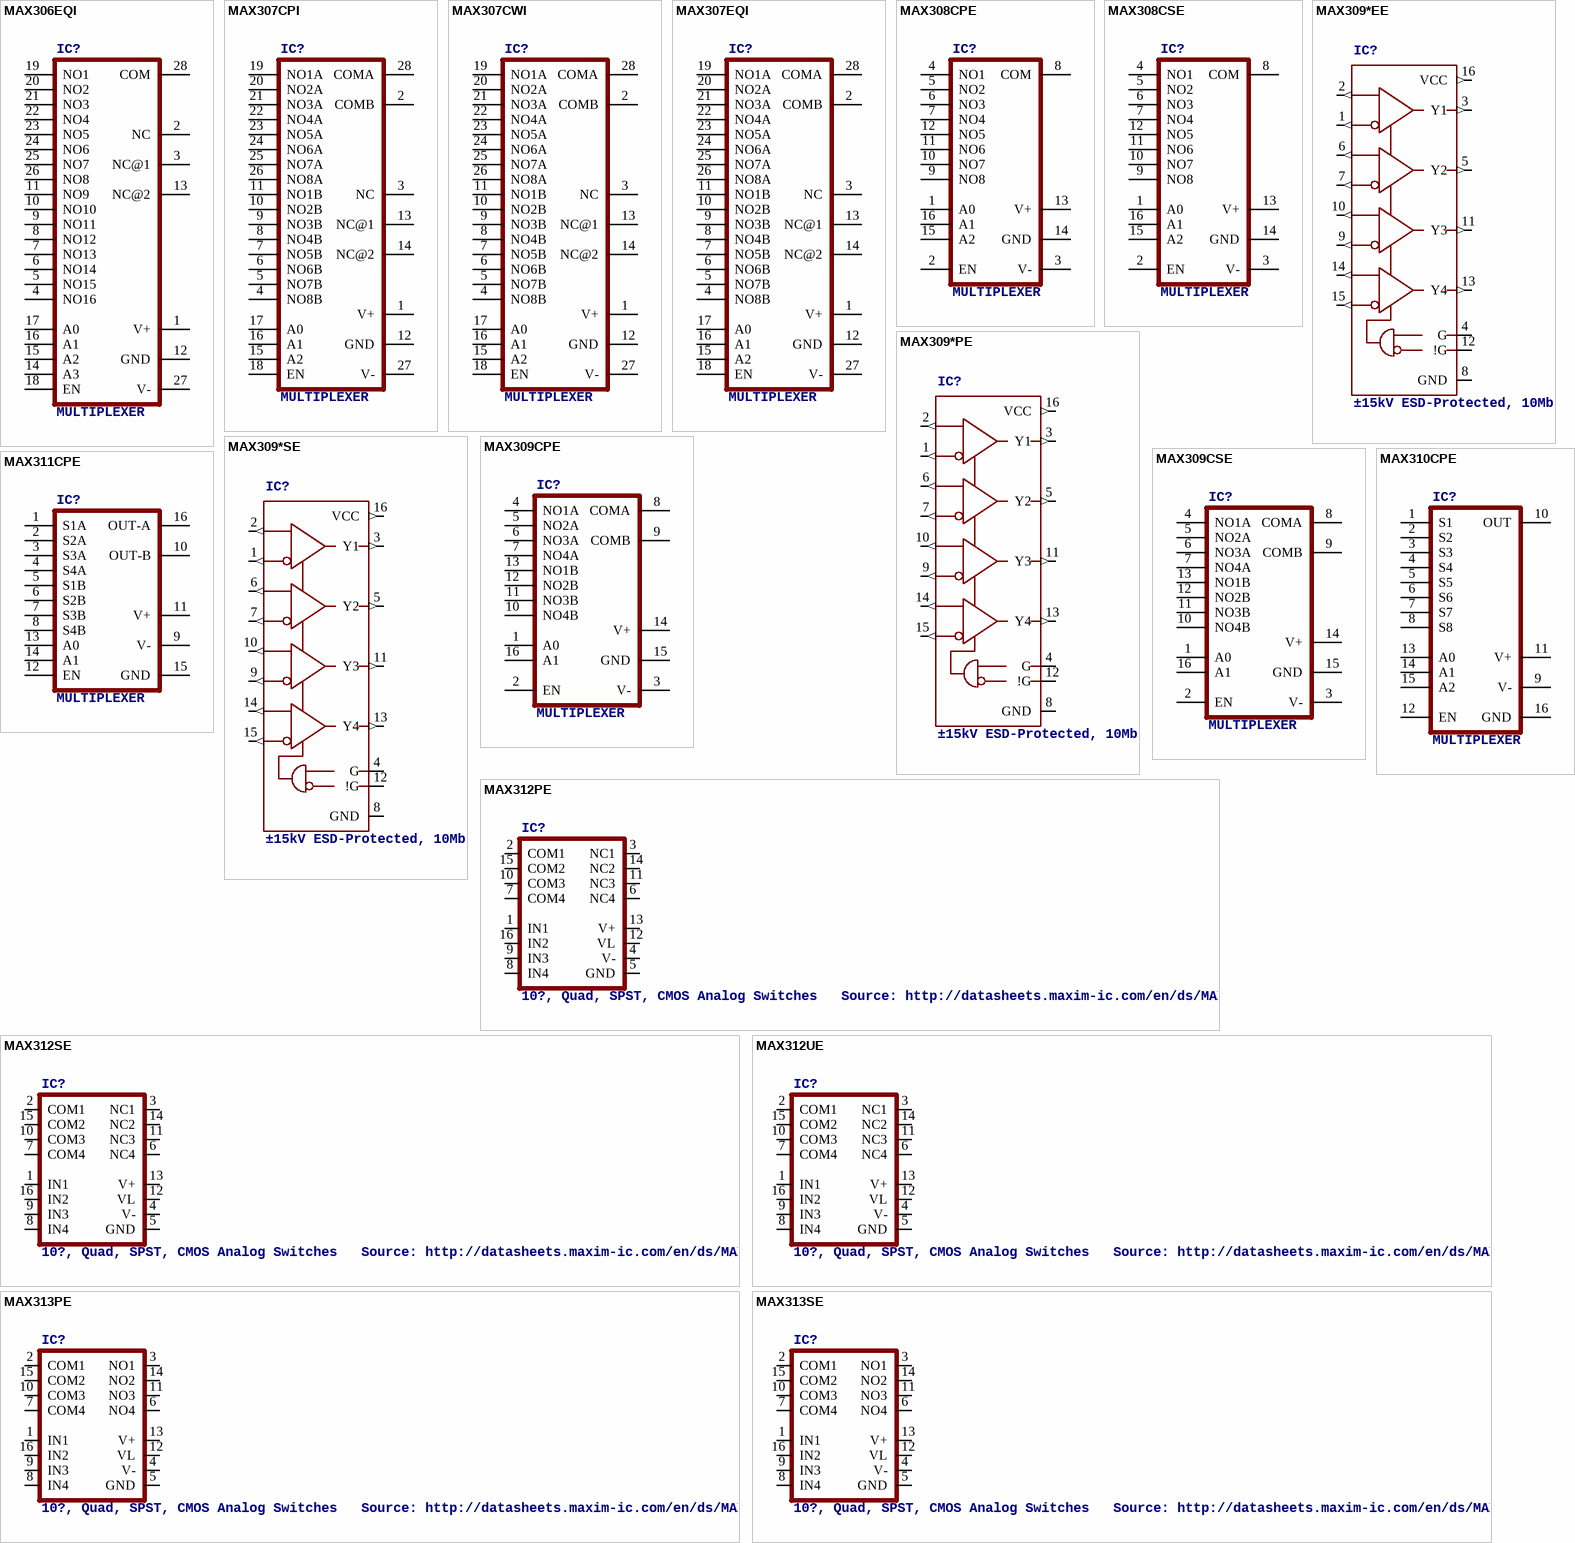
[diagram p13: symbols MAX306EQI to MAX313SE]

## MAX306EQI
designator IC?, comment MULTIPLEXER
MPN: MAX306EQI; OC_FARNELL: unknown; OC_NEWARK: 90C2558
footprint PLCC28
pins: 1 V+ (power), 2 NC, 3 NC@1, 4 NO16, 5 NO15, 6 NO14, 7 NO13, 8 NO12, 9 NO11, 10 NO10, 11 NO9, 12 GND (power), 13 NC@2, 14 A3, 15 A2, 16 A1, 17 A0, 18 EN, 19 NO1, 20 NO2, 21 NO3, 22 NO4, 23 NO5, 24 NO6, 25 NO7, 26 NO8, 27 V- (power), 28 COM

## MAX307CPI
designator IC?, comment MULTIPLEXER
MPN: MAX307CPI+; OC_FARNELL: unknown; OC_NEWARK: 68K4580
footprint DIL28-6
pins: 1 V+ (power), 2 COMB, 3 NC, 4 NO8B, 5 NO7B, 6 NO6B, 7 NO5B, 8 NO4B, 9 NO3B, 10 NO2B, 11 NO1B, 12 GND (power), 13 NC@1, 14 NC@2, 15 A2, 16 A1, 17 A0, 18 EN, 19 NO1A, 20 NO2A, 21 NO3A, 22 NO4A, 23 NO5A, 24 NO6A, 25 NO7A, 26 NO8A, 27 V- (power), 28 COMA

## MAX307CWI
designator IC?, comment MULTIPLEXER
MPN: MAX307CWI; MF: MAXIM; OC_FARNELL: 1379788; OC_NEWARK: 77C8953
footprint SO28L
pins: 1 V+ (power), 2 COMB, 3 NC, 4 NO8B, 5 NO7B, 6 NO6B, 7 NO5B, 8 NO4B, 9 NO3B, 10 NO2B, 11 NO1B, 12 GND (power), 13 NC@1, 14 NC@2, 15 A2, 16 A1, 17 A0, 18 EN, 19 NO1A, 20 NO2A, 21 NO3A, 22 NO4A, 23 NO5A, 24 NO6A, 25 NO7A, 26 NO8A, 27 V- (power), 28 COMA

## MAX307EQI
designator IC?, comment MULTIPLEXER
OC_FARNELL: unknown; OC_NEWARK: unknown
footprint PLCC28
pins: 1 V+ (power), 2 COMB, 3 NC, 4 NO8B, 5 NO7B, 6 NO6B, 7 NO5B, 8 NO4B, 9 NO3B, 10 NO2B, 11 NO1B, 12 GND (power), 13 NC@1, 14 NC@2, 15 A2, 16 A1, 17 A0, 18 EN, 19 NO1A, 20 NO2A, 21 NO3A, 22 NO4A, 23 NO5A, 24 NO6A, 25 NO7A, 26 NO8A, 27 V- (power), 28 COMA

## MAX308CPE
designator IC?, comment MULTIPLEXER
MPN: MAX308CPE+; MF: MAXIM; OC_FARNELL: 1379903; OC_NEWARK: 67K4639
footprint DIL16
pins: 1 A0, 2 EN, 3 V- (power), 4 NO1, 5 NO2, 6 NO3, 7 NO4, 8 COM, 9 NO8, 10 NO7, 11 NO6, 12 NO5, 13 V+ (power), 14 GND (power), 15 A2, 16 A1

## MAX308CSE
designator IC?, comment MULTIPLEXER
MPN: MAX308CSE+; MF: MAXIM; OC_FARNELL: 9724699; OC_NEWARK: 67K4640
footprint SO16
pins: 1 A0, 2 EN, 3 V- (power), 4 NO1, 5 NO2, 6 NO3, 7 NO4, 8 COM, 9 NO8, 10 NO7, 11 NO6, 12 NO5, 13 V+ (power), 14 GND (power), 15 A2, 16 A1

## MAX309*EE
designator IC?, comment ±15kV ESD-Protected, 10Mbps, 3V/5V, Quad RS-422/RS-485 Receivers   Source: http://pdfserv.maxim-ic.com/en/ds/MAX3095-MAX3096.pdf
MPN: MAX3095CEE+; MPN: MAX3095EEE; MPN: MAX3096CEE+; MF: MAXIM; OC_FARNELL: unknown; OC_NEWARK: 67K4748; OC_NEWARK: 90C2686; OC_NEWARK: 67K4757; OC_FARNELL: 1379906; OC_NEWARK: unknown
footprint QSOP16
pins: 1 B1 (out), 2 A1 (out), 3 Y1 (out), 4 G, 5 Y2 (out), 6 A2 (out), 7 B2 (out), 8 GND (power), 9 B3 (out), 10 A3 (out), 11 Y3 (out), 12 !G, 13 Y4 (out), 14 A4 (out), 15 B4 (out), 16 VCC (out)

## MAX309*PE
designator IC?, comment ±15kV ESD-Protected, 10Mbps, 3V/5V, Quad RS-422/RS-485 Receivers   Source: http://pdfserv.maxim-ic.com/en/ds/MAX3095-MAX3096.pdf
MPN: MAX3095CPE+; MPN: MAX3095EPE+; MF: MAXIM; OC_FARNELL: 9723919; OC_NEWARK: 67K4750; OC_FARNELL: unknown; OC_NEWARK: 67K4754; OC_NEWARK: unknown
footprint DIL16
pins: 1 B1 (out), 2 A1 (out), 3 Y1 (out), 4 G, 5 Y2 (out), 6 A2 (out), 7 B2 (out), 8 GND (power), 9 B3 (out), 10 A3 (out), 11 Y3 (out), 12 !G, 13 Y4 (out), 14 A4 (out), 15 B4 (out), 16 VCC (out)

## MAX309*SE
designator IC?, comment ±15kV ESD-Protected, 10Mbps, 3V/5V, Quad RS-422/RS-485 Receivers   Source: http://pdfserv.maxim-ic.com/en/ds/MAX3095-MAX3096.pdf
MPN: MAX3095CSE+; MPN: MAX3095ESE; MPN: MAX3096CSE+; MF: MAXIM; OC_FARNELL: 1379905; OC_NEWARK: 68K4596; OC_FARNELL: unknown; OC_NEWARK: 90C2689; OC_NEWARK: 67K4759; OC_NEWARK: unknown
footprint SO16
pins: 1 B1 (out), 2 A1 (out), 3 Y1 (out), 4 G, 5 Y2 (out), 6 A2 (out), 7 B2 (out), 8 GND (power), 9 B3 (out), 10 A3 (out), 11 Y3 (out), 12 !G, 13 Y4 (out), 14 A4 (out), 15 B4 (out), 16 VCC (out)

## MAX309CPE
designator IC?, comment MULTIPLEXER
MPN: MAX309CPE+; OC_FARNELL: unknown; OC_NEWARK: 76K6682
footprint DIL16
pins: 1 A0, 2 EN, 3 V- (power), 4 NO1A, 5 NO2A, 6 NO3A, 7 NO4A, 8 COMA, 9 COMB, 10 NO4B, 11 NO3B, 12 NO2B, 13 NO1B, 14 V+ (power), 15 GND (power), 16 A1

## MAX309CSE
designator IC?, comment MULTIPLEXER
MPN: MAX309CSE+; MF: MAXIM; OC_FARNELL: 1606630; OC_NEWARK: 67K4725
footprint SO16
pins: 1 A0, 2 EN, 3 V- (power), 4 NO1A, 5 NO2A, 6 NO3A, 7 NO4A, 8 COMA, 9 COMB, 10 NO4B, 11 NO3B, 12 NO2B, 13 NO1B, 14 V+ (power), 15 GND (power), 16 A1

## MAX310CPE
designator IC?, comment MULTIPLEXER
MPN: MAX310CPE+; OC_FARNELL: unknown; OC_NEWARK: 76K6683
footprint DIL16
pins: 1 S1, 2 S2, 3 S3, 4 S4, 5 S5, 6 S6, 7 S7, 8 S8, 9 V- (power), 10 OUT, 11 V+ (power), 12 EN, 13 A0, 14 A1, 15 A2, 16 GND (power)

## MAX311CPE
designator IC?, comment MULTIPLEXER
MPN: MAX311CPE+; OC_FARNELL: unknown; OC_NEWARK: 05M8520
footprint DIL16
pins: 1 S1A, 2 S2A, 3 S3A, 4 S4A, 5 S1B, 6 S2B, 7 S3B, 8 S4B, 9 V- (power), 10 OUT-B, 11 V+ (power), 12 EN, 13 A0, 14 A1, 15 GND (power), 16 OUT-A

## MAX312PE
designator IC?, comment 10?, Quad, SPST, CMOS Analog Switches   Source: http://datasheets.maxim-ic.com/en/ds/MAX312-MAX314.pdf
OC_FARNELL: unknown; OC_NEWARK: unknown
footprint DIL16
pins: 1 IN1, 2 COM1, 3 NC1, 4 V- (power), 5 GND (power), 6 NC4, 7 COM4, 8 IN4, 9 IN3, 10 COM3, 11 NC3, 12 VL (power), 13 V+ (power), 14 NC2, 15 COM2, 16 IN2

## MAX312SE
designator IC?, comment 10?, Quad, SPST, CMOS Analog Switches   Source: http://datasheets.maxim-ic.com/en/ds/MAX312-MAX314.pdf
OC_FARNELL: unknown; OC_NEWARK: unknown
footprint SSOP16
pins: 1 IN1, 2 COM1, 3 NC1, 4 V- (power), 5 GND (power), 6 NC4, 7 COM4, 8 IN4, 9 IN3, 10 COM3, 11 NC3, 12 VL (power), 13 V+ (power), 14 NC2, 15 COM2, 16 IN2

## MAX312UE
designator IC?, comment 10?, Quad, SPST, CMOS Analog Switches   Source: http://datasheets.maxim-ic.com/en/ds/MAX312-MAX314.pdf
OC_FARNELL: unknown; OC_NEWARK: unknown
footprint TSSOP16
pins: 1 IN1, 2 COM1, 3 NC1, 4 V- (power), 5 GND (power), 6 NC4, 7 COM4, 8 IN4, 9 IN3, 10 COM3, 11 NC3, 12 VL (power), 13 V+ (power), 14 NC2, 15 COM2, 16 IN2

## MAX313PE
designator IC?, comment 10?, Quad, SPST, CMOS Analog Switches   Source: http://datasheets.maxim-ic.com/en/ds/MAX312-MAX314.pdf
MPN: MAX313CPE; MPN: MAX313EPE+; MF: MAXIM; OC_FARNELL: 1188036; OC_NEWARK: 34C3867; OC_FARNELL: unknown; OC_NEWARK: 99K3220
footprint DIL16
pins: 1 IN1, 2 COM1, 3 NO1, 4 V- (power), 5 GND (power), 6 NO4, 7 COM4, 8 IN4, 9 IN3, 10 COM3, 11 NO3, 12 VL (power), 13 V+ (power), 14 NO2, 15 COM2, 16 IN2

## MAX313SE
designator IC?, comment 10?, Quad, SPST, CMOS Analog Switches   Source: http://datasheets.maxim-ic.com/en/ds/MAX312-MAX314.pdf
MPN: MAX313CSE; MPN: MAX313ESE; MF: MAXIM; OC_FARNELL: 1422300; OC_NEWARK: 34C3868; OC_FARNELL: 1606631; OC_NEWARK: 90C2708
footprint SO16
pins: 1 IN1, 2 COM1, 3 NO1, 4 V- (power), 5 GND (power), 6 NO4, 7 COM4, 8 IN4, 9 IN3, 10 COM3, 11 NO3, 12 VL (power), 13 V+ (power), 14 NO2, 15 COM2, 16 IN2

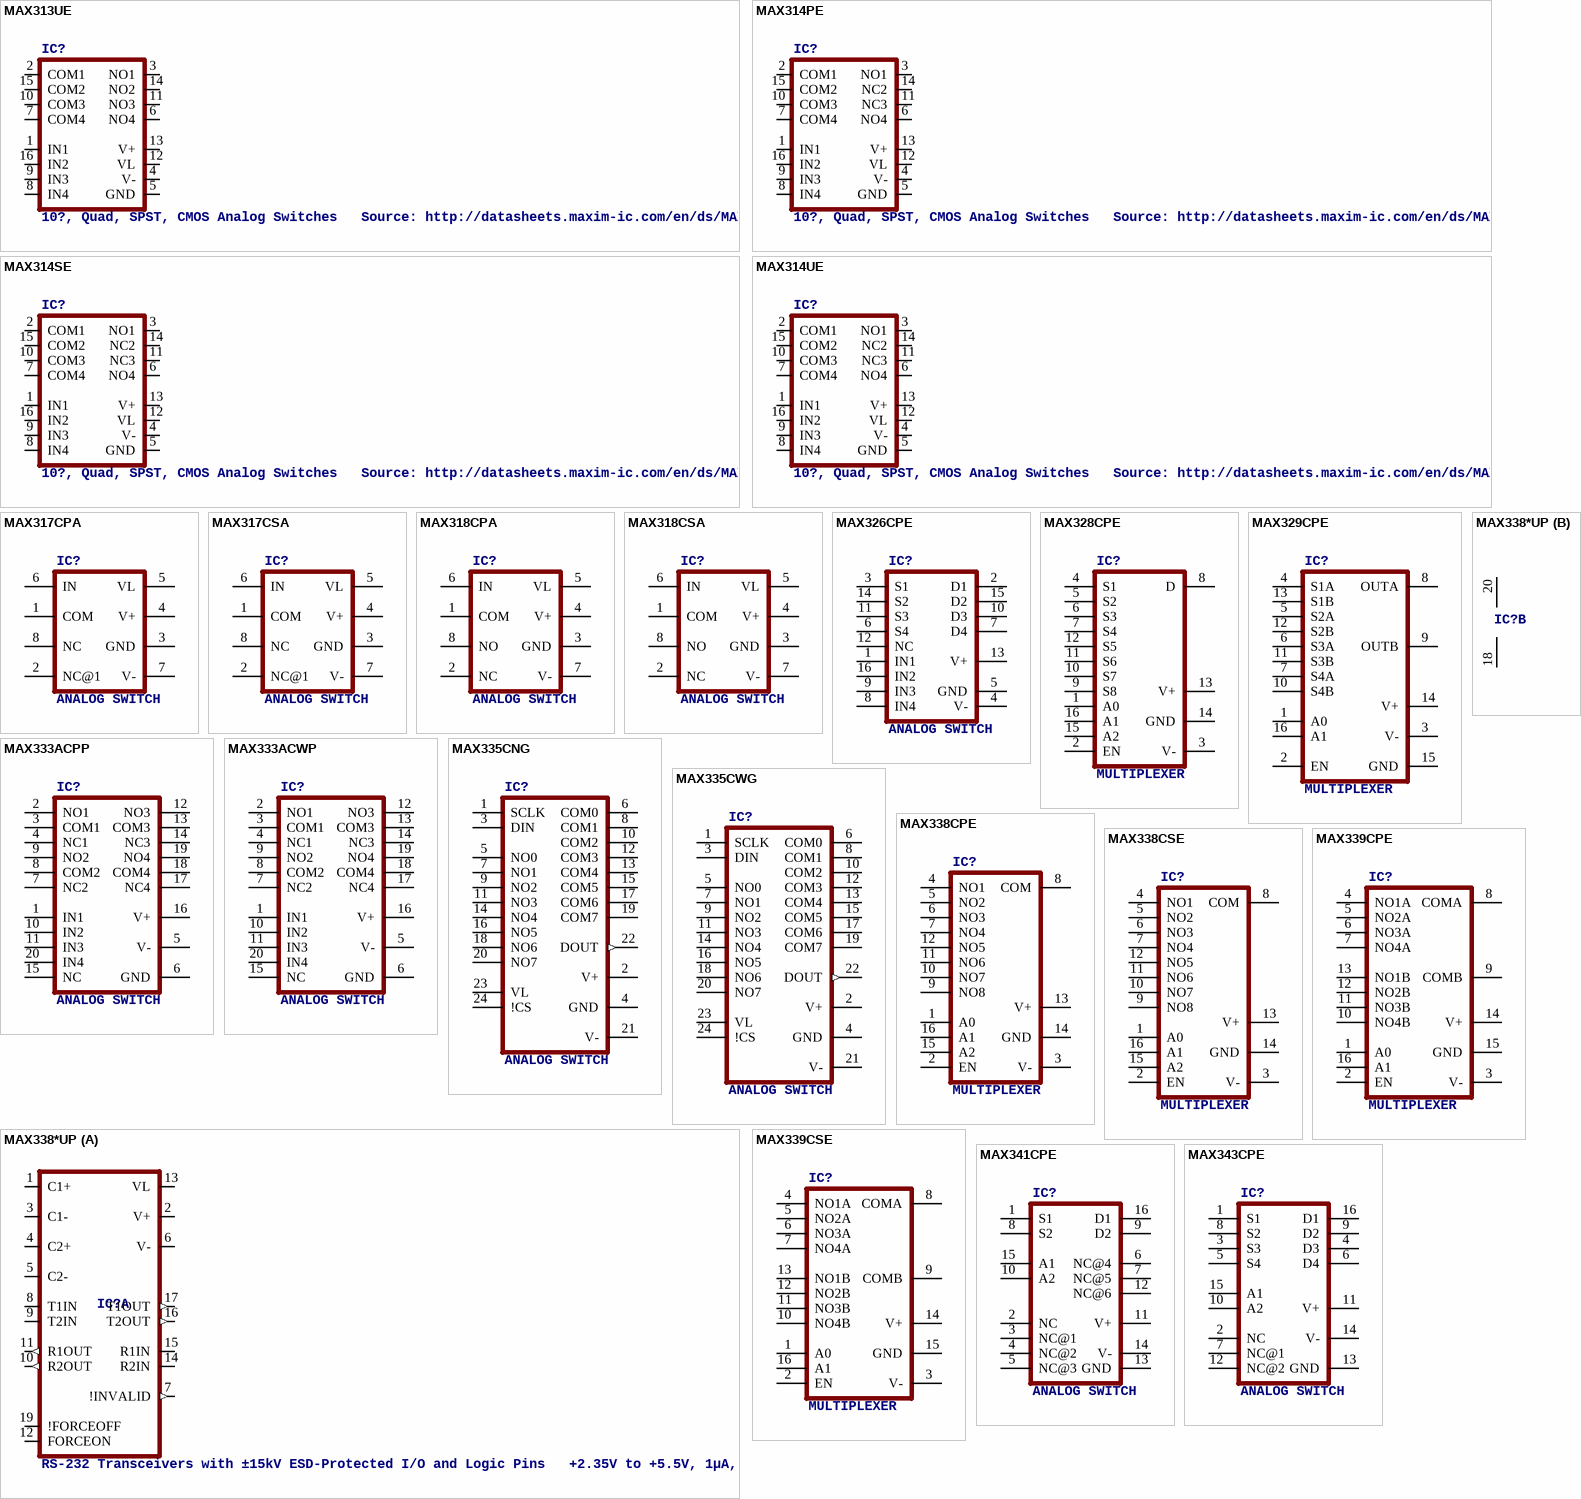
[diagram p14: symbols MAX313UE to MAX343CPE]

## MAX313UE
designator IC?, comment 10?, Quad, SPST, CMOS Analog Switches   Source: http://datasheets.maxim-ic.com/en/ds/MAX312-MAX314.pdf
MPN: MAX313CUE+; MPN: MAX313EUE+; OC_FARNELL: unknown; OC_NEWARK: 67K4777; OC_NEWARK: 67K4781
footprint TSSOP16
pins: 1 IN1, 2 COM1, 3 NO1, 4 V- (power), 5 GND (power), 6 NO4, 7 COM4, 8 IN4, 9 IN3, 10 COM3, 11 NO3, 12 VL (power), 13 V+ (power), 14 NO2, 15 COM2, 16 IN2

## MAX314PE
designator IC?, comment 10?, Quad, SPST, CMOS Analog Switches   Source: http://datasheets.maxim-ic.com/en/ds/MAX312-MAX314.pdf
MPN: MAX314CPE; MPN: MAX314EPE+; OC_FARNELL: 1188037; OC_NEWARK: 90C2719; OC_FARNELL: unknown; OC_NEWARK: 99K3225
footprint DIL16
pins: 1 IN1, 2 COM1, 3 NO1, 4 V- (power), 5 GND (power), 6 NO4, 7 COM4, 8 IN4, 9 IN3, 10 COM3, 11 NC3, 12 VL (power), 13 V+ (power), 14 NC2, 15 COM2, 16 IN2

## MAX314SE
designator IC?, comment 10?, Quad, SPST, CMOS Analog Switches   Source: http://datasheets.maxim-ic.com/en/ds/MAX312-MAX314.pdf
MPN: MAX314CSE+; MPN: MAX314ESE; MF: MAXIM; OC_FARNELL: 1422301; OC_NEWARK: 67K4785; OC_FARNELL: unknown; OC_NEWARK: 90C2725
footprint SO16
pins: 1 IN1, 2 COM1, 3 NO1, 4 V- (power), 5 GND (power), 6 NO4, 7 COM4, 8 IN4, 9 IN3, 10 COM3, 11 NC3, 12 VL (power), 13 V+ (power), 14 NC2, 15 COM2, 16 IN2

## MAX314UE
designator IC?, comment 10?, Quad, SPST, CMOS Analog Switches   Source: http://datasheets.maxim-ic.com/en/ds/MAX312-MAX314.pdf
MPN: MAX314CUE+; MPN: MAX314EUE; OC_FARNELL: unknown; OC_NEWARK: 67K4787; OC_NEWARK: 90C2727
footprint TSSOP16
pins: 1 IN1, 2 COM1, 3 NO1, 4 V- (power), 5 GND (power), 6 NO4, 7 COM4, 8 IN4, 9 IN3, 10 COM3, 11 NC3, 12 VL (power), 13 V+ (power), 14 NC2, 15 COM2, 16 IN2

## MAX317CPA
designator IC?, comment ANALOG SWITCH
MPN: MAX317CPA; OC_FARNELL: unknown; OC_NEWARK: 77C9073
footprint DIL08
pins: 1 COM, 2 NC@1, 3 GND (power), 4 V+ (power), 5 VL (power), 6 IN, 7 V- (power), 8 NC

## MAX317CSA
designator IC?, comment ANALOG SWITCH
MPN: MAX317CSA+; OC_FARNELL: unknown; OC_NEWARK: 57K8800
footprint SO08
pins: 1 COM, 2 NC@1, 3 GND (power), 4 V+ (power), 5 VL (power), 6 IN, 7 V- (power), 8 NC

## MAX318CPA
designator IC?, comment ANALOG SWITCH
MPN: MAX318CPA; OC_FARNELL: unknown; OC_NEWARK: 77C9088
footprint DIL08
pins: 1 COM, 2 NC, 3 GND (power), 4 V+ (power), 5 VL (power), 6 IN, 7 V- (power), 8 NO

## MAX318CSA
designator IC?, comment ANALOG SWITCH
MPN: MAX318CSA+; MF: MAXIM; OC_FARNELL: unknown; OC_NEWARK: 37K7911
footprint SO08
pins: 1 COM, 2 NC, 3 GND (power), 4 V+ (power), 5 VL (power), 6 IN, 7 V- (power), 8 NO

## MAX326CPE
designator IC?, comment ANALOG SWITCH
MPN: MAX326CPE+; MF: MAXIM; OC_FARNELL: unknown; OC_NEWARK: 67K4921
footprint DIL16
pins: 1 IN1, 2 D1, 3 S1, 4 V- (power), 5 GND (power), 6 S4, 7 D4, 8 IN4, 9 IN3, 10 D3, 11 S3, 12 NC, 13 V+ (power), 14 S2, 15 D2, 16 IN2

## MAX328CPE
designator IC?, comment MULTIPLEXER
MPN: MAX328CPE; MF: MAXIM; OC_FARNELL: unknown; OC_NEWARK: 34C3876
footprint DIL16
pins: 1 A0, 2 EN, 3 V- (power), 4 S1, 5 S2, 6 S3, 7 S4, 8 D, 9 S8, 10 S7, 11 S6, 12 S5, 13 V+ (power), 14 GND (power), 15 A2, 16 A1

## MAX329CPE
designator IC?, comment MULTIPLEXER
MPN: MAX329CPE+; OC_FARNELL: unknown; OC_NEWARK: 99K3260
footprint DIL16
pins: 1 A0, 2 EN, 3 V- (power), 4 S1A, 5 S2A, 6 S3A, 7 S4A, 8 OUTA, 9 OUTB, 10 S4B, 11 S3B, 12 S2B, 13 S1B, 14 V+ (power), 15 GND (power), 16 A1

## MAX333ACPP
designator IC?, comment ANALOG SWITCH
MPN: MAX333ACPP; MF: MAXIM; OC_FARNELL: unknown; OC_NEWARK: 77C9354
footprint DIL20
pins: 1 IN1, 2 NO1, 3 COM1, 4 NC1, 5 V- (power), 6 GND (power), 7 NC2, 8 COM2, 9 NO2, 10 IN2, 11 IN3, 12 NO3, 13 COM3, 14 NC3, 15 NC, 16 V+ (power), 17 NC4, 18 COM4, 19 NO4, 20 IN4

## MAX333ACWP
designator IC?, comment ANALOG SWITCH
MPN: MAX333ACWP+; MF: MAXIM; OC_FARNELL: 9725547; OC_NEWARK: 28K3302
footprint SO20L
pins: 1 IN1, 2 NO1, 3 COM1, 4 NC1, 5 V- (power), 6 GND (power), 7 NC2, 8 COM2, 9 NO2, 10 IN2, 11 IN3, 12 NO3, 13 COM3, 14 NC3, 15 NC, 16 V+ (power), 17 NC4, 18 COM4, 19 NO4, 20 IN4

## MAX335CNG
designator IC?, comment ANALOG SWITCH
MPN: MAX335CNG; MF: MAXIM; OC_FARNELL: 1188014; OC_NEWARK: 34C3880
footprint DIL24-3
pins: 1 SCLK, 2 V+ (power), 3 DIN, 4 GND (power), 5 NO0, 6 COM0, 7 NO1, 8 COM1, 9 NO2, 10 COM2, 11 NO3, 12 COM3, 13 COM4, 14 NO4, 15 COM5, 16 NO5, 17 COM6, 18 NO6, 19 COM7, 20 NO7, 21 V- (power), 22 DOUT (out), 23 VL, 24 !CS

## MAX335CWG
designator IC?, comment ANALOG SWITCH
MPN: MAX335CWG; MF: MAXIM; OC_FARNELL: 9725555; OC_NEWARK: 34C3881
footprint SO24L
pins: 1 SCLK, 2 V+ (power), 3 DIN, 4 GND (power), 5 NO0, 6 COM0, 7 NO1, 8 COM1, 9 NO2, 10 COM2, 11 NO3, 12 COM3, 13 COM4, 14 NO4, 15 COM5, 16 NO5, 17 COM6, 18 NO6, 19 COM7, 20 NO7, 21 V- (power), 22 DOUT (out), 23 VL, 24 !CS

## MAX338*UP
designator IC?, comment RS-232 Transceivers with ±15kV ESD-Protected I/O and Logic Pins   +2.35V to +5.5V, 1µA, 2Tx/2Rx  Source: http://datasheets.maxim-ic.com/en/ds/MAX3380E-MAX3381E.pdf
MPN: MAX3380ECUP; MPN: MAX3380EEUP; MPN: MAX3381ECUP; MPN: MAX3381EEUP; MF: MAXIM; OC_FARNELL: 1379941; OC_NEWARK: 77C9413; OC_FARNELL: 1379942; OC_NEWARK: 77C9415; OC_FARNELL: 1379712; OC_NEWARK: 77C9417; OC_FARNELL: unknown; OC_NEWARK: 77C9419
footprint TSSOP20
part A pins: 1 C1+, 2 V+, 3 C1-, 4 C2+, 5 C2-, 6 V-, 7 !INVALID (out), 8 T1IN, 9 T2IN, 10 R2OUT (out), 11 R1OUT (out), 12 FORCEON, 13 VL, 14 R2IN, 15 R1IN, 16 T2OUT (out), 17 T1OUT (out), 19 !FORCEOFF
part B pins: 18 GND (power), 20 VCC (power)

## MAX338CPE
designator IC?, comment MULTIPLEXER
MPN: MAX338CPE+; OC_FARNELL: unknown; OC_NEWARK: 99K3297
footprint DIL16
pins: 1 A0, 2 EN, 3 V- (power), 4 NO1, 5 NO2, 6 NO3, 7 NO4, 8 COM, 9 NO8, 10 NO7, 11 NO6, 12 NO5, 13 V+ (power), 14 GND (power), 15 A2, 16 A1

## MAX338CSE
designator IC?, comment MULTIPLEXER
MPN: MAX338CSE; MF: MAXIM; OC_FARNELL: 1379944; OC_NEWARK: 90C3040
footprint SO16
pins: 1 A0, 2 EN, 3 V- (power), 4 NO1, 5 NO2, 6 NO3, 7 NO4, 8 COM, 9 NO8, 10 NO7, 11 NO6, 12 NO5, 13 V+ (power), 14 GND (power), 15 A2, 16 A1

## MAX339CPE
designator IC?, comment MULTIPLEXER
MPN: MAX339CPE+; OC_FARNELL: unknown; OC_NEWARK: 05M8545
footprint DIL16
pins: 1 A0, 2 EN, 3 V- (power), 4 NO1A, 5 NO2A, 6 NO3A, 7 NO4A, 8 COMA, 9 COMB, 10 NO4B, 11 NO3B, 12 NO2B, 13 NO1B, 14 V+ (power), 15 GND (power), 16 A1

## MAX339CSE
designator IC?, comment MULTIPLEXER
MPN: MAX339CSE; MF: MAXIM; OC_FARNELL: unknown; OC_NEWARK: 90C3050
footprint SO16
pins: 1 A0, 2 EN, 3 V- (power), 4 NO1A, 5 NO2A, 6 NO3A, 7 NO4A, 8 COMA, 9 COMB, 10 NO4B, 11 NO3B, 12 NO2B, 13 NO1B, 14 V+ (power), 15 GND (power), 16 A1

## MAX341CPE
designator IC?, comment ANALOG SWITCH
OC_FARNELL: unknown; OC_NEWARK: unknown
footprint DIL16
pins: 1 S1, 2 NC, 3 NC@1, 4 NC@2, 5 NC@3, 6 NC@4, 7 NC@5, 8 S2, 9 D2, 10 A2, 11 V+ (power), 12 NC@6, 13 GND (power), 14 V- (power), 15 A1, 16 D1

## MAX343CPE
designator IC?, comment ANALOG SWITCH
OC_FARNELL: unknown; OC_NEWARK: unknown
footprint DIL16
pins: 1 S1, 2 NC, 3 S3, 4 D3, 5 S4, 6 D4, 7 NC@1, 8 S2, 9 D2, 10 A2, 11 V+ (power), 12 NC@2, 13 GND (power), 14 V- (power), 15 A1, 16 D1

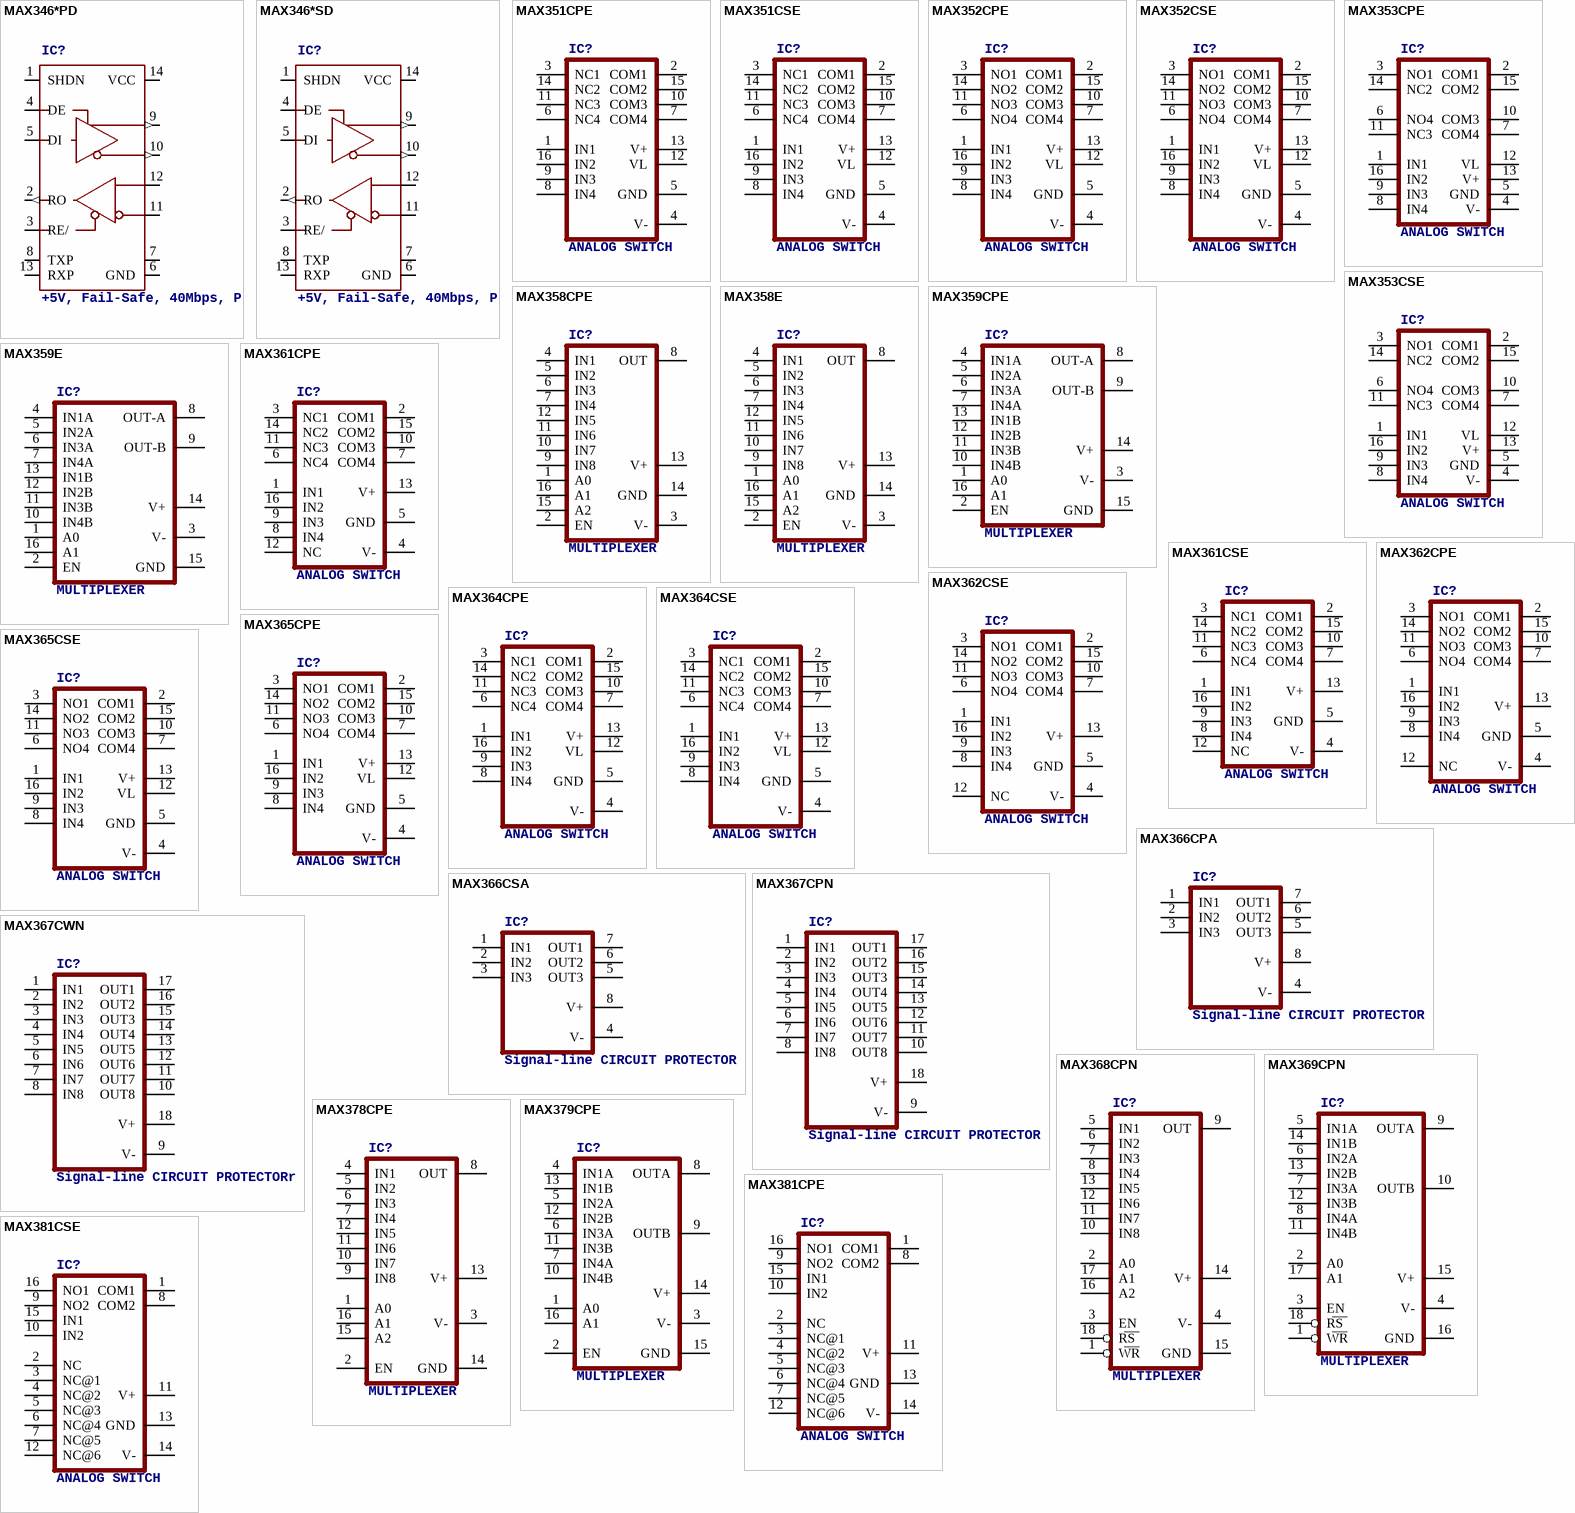
[diagram p15: symbols MAX346*PD to MAX381CSE]

## MAX346*PD
designator IC?, comment +5V, Fail-Safe, 40Mbps, Profibus RS-485/RS-422 Transceivers   Source: MAX3465-MAX3469.pdf
MPN: MAX3465CPD+; OC_FARNELL: unknown; OC_NEWARK: 42M5444; OC_NEWARK: unknown
footprint DIL14
pins: 1 SHDN, 2 RO (out), 3 RE/, 4 DE, 5 DI, 6 GND (power), 7 GND@1 (power), 8 TXP, 9 Y (out), 10 Z (out), 11 B, 12 A, 13 RXP, 14 VCC (power)

## MAX346*SD
designator IC?, comment +5V, Fail-Safe, 40Mbps, Profibus RS-485/RS-422 Transceivers   Source: MAX3465-MAX3469.pdf
MPN: MAX3465CSD+; MPN: MAX3465ESD+; MPN: MAX3466CSD+; MPN: MAX3466ESD+; OC_FARNELL: unknown; OC_NEWARK: 65K6814; OC_NEWARK: 65K6816; OC_NEWARK: 65K6818; OC_NEWARK: 28M0353
footprint SO14
pins: 1 SHDN, 2 RO (out), 3 RE/, 4 DE, 5 DI, 6 GND (power), 7 GND@1 (power), 8 TXP, 9 Y (out), 10 Z (out), 11 B, 12 A, 13 RXP, 14 VCC (power)

## MAX351CPE
designator IC?, comment ANALOG SWITCH
MPN: MAX351CPE+; OC_FARNELL: unknown; OC_NEWARK: 73K8561
footprint DIL16
pins: 1 IN1, 2 COM1, 3 NC1, 4 V- (power), 5 GND (power), 6 NC4, 7 COM4, 8 IN4, 9 IN3, 10 COM3, 11 NC3, 12 VL (power), 13 V+ (power), 14 NC2, 15 COM2, 16 IN2

## MAX351CSE
designator IC?, comment ANALOG SWITCH
MPN: MAX351CSE; MF: MAXIM; OC_FARNELL: 1606638; OC_NEWARK: 77C9532
footprint SO16
pins: 1 IN1, 2 COM1, 3 NC1, 4 V- (power), 5 GND (power), 6 NC4, 7 COM4, 8 IN4, 9 IN3, 10 COM3, 11 NC3, 12 VL (power), 13 V+ (power), 14 NC2, 15 COM2, 16 IN2

## MAX352CPE
designator IC?, comment ANALOG SWITCH
MPN: MAX352CPE+; OC_FARNELL: unknown; OC_NEWARK: 05M8556
footprint DIL16
pins: 1 IN1, 2 COM1, 3 NO1, 4 V- (power), 5 GND (power), 6 NO4, 7 COM4, 8 IN4, 9 IN3, 10 COM3, 11 NO3, 12 VL (power), 13 V+ (power), 14 NO2, 15 COM2, 16 IN2

## MAX352CSE
designator IC?, comment ANALOG SWITCH
MPN: MAX352CSE+; OC_FARNELL: unknown; OC_NEWARK: 67K5052
footprint SO16
pins: 1 IN1, 2 COM1, 3 NO1, 4 V- (power), 5 GND (power), 6 NO4, 7 COM4, 8 IN4, 9 IN3, 10 COM3, 11 NO3, 12 VL (power), 13 V+ (power), 14 NO2, 15 COM2, 16 IN2

## MAX353CPE
designator IC?, comment ANALOG SWITCH
OC_FARNELL: unknown; OC_NEWARK: unknown
footprint DIL16
pins: 1 IN1, 2 COM1, 3 NO1, 4 V- (power), 5 GND (power), 6 NO4, 7 COM4, 8 IN4, 9 IN3, 10 COM3, 11 NC3, 12 VL (power), 13 V+ (power), 14 NC2, 15 COM2, 16 IN2

## MAX353CSE
designator IC?, comment ANALOG SWITCH
MPN: MAX353CSE; OC_FARNELL: unknown; OC_NEWARK: 90C3121
footprint SO16
pins: 1 IN1, 2 COM1, 3 NO1, 4 V- (power), 5 GND (power), 6 NO4, 7 COM4, 8 IN4, 9 IN3, 10 COM3, 11 NC3, 12 VL (power), 13 V+ (power), 14 NC2, 15 COM2, 16 IN2

## MAX358CPE
designator IC?, comment MULTIPLEXER
MPN: MAX358CPE; MF: MAXIM; OC_FARNELL: unknown; OC_NEWARK: 77C9555
footprint DIL16
pins: 1 A0, 2 EN, 3 V- (power), 4 IN1, 5 IN2, 6 IN3, 7 IN4, 8 OUT, 9 IN8, 10 IN7, 11 IN6, 12 IN5, 13 V+ (power), 14 GND (power), 15 A2, 16 A1

## MAX358E
designator IC?, comment MULTIPLEXER
MPN: MAX358EWE; MF: MAXIM; OC_FARNELL: unknown; OC_NEWARK: 77C9559
footprint DIL16
pins: 1 A0, 2 EN, 3 V- (power), 4 IN1, 5 IN2, 6 IN3, 7 IN4, 8 OUT, 9 IN8, 10 IN7, 11 IN6, 12 IN5, 13 V+ (power), 14 GND (power), 15 A2, 16 A1

## MAX359CPE
designator IC?, comment MULTIPLEXER
MPN: MAX359CPE; OC_FARNELL: unknown; OC_NEWARK: 72C4143
footprint DIL16
pins: 1 A0, 2 EN, 3 V- (power), 4 IN1A, 5 IN2A, 6 IN3A, 7 IN4A, 8 OUT-A, 9 OUT-B, 10 IN4B, 11 IN3B, 12 IN2B, 13 IN1B, 14 V+ (power), 15 GND (power), 16 A1

## MAX359E
designator IC?, comment MULTIPLEXER
MPN: MAX359EWE+; OC_FARNELL: unknown; OC_NEWARK: 67K5061
footprint DIL16
pins: 1 A0, 2 EN, 3 V- (power), 4 IN1A, 5 IN2A, 6 IN3A, 7 IN4A, 8 OUT-A, 9 OUT-B, 10 IN4B, 11 IN3B, 12 IN2B, 13 IN1B, 14 V+ (power), 15 GND (power), 16 A1

## MAX361CPE
designator IC?, comment ANALOG SWITCH
MPN: MAX361CPE+; OC_FARNELL: unknown; OC_NEWARK: 27M4083
footprint DIL16
pins: 1 IN1, 2 COM1, 3 NC1, 4 V- (power), 5 GND (power), 6 NC4, 7 COM4, 8 IN4, 9 IN3, 10 COM3, 11 NC3, 12 NC, 13 V+ (power), 14 NC2, 15 COM2, 16 IN2

## MAX361CSE
designator IC?, comment ANALOG SWITCH
MPN: MAX361CSE; MF: MAXIM; OC_FARNELL: unknown; OC_NEWARK: 77C9568
footprint SO16
pins: 1 IN1, 2 COM1, 3 NC1, 4 V- (power), 5 GND (power), 6 NC4, 7 COM4, 8 IN4, 9 IN3, 10 COM3, 11 NC3, 12 NC, 13 V+ (power), 14 NC2, 15 COM2, 16 IN2

## MAX362CPE
designator IC?, comment ANALOG SWITCH
MPN: MAX362CPE+; OC_FARNELL: unknown; OC_NEWARK: 65K6820
footprint DIL16
pins: 1 IN1, 2 COM1, 3 NO1, 4 V- (power), 5 GND (power), 6 NO4, 7 COM4, 8 IN4, 9 IN3, 10 COM3, 11 NO3, 12 NC, 13 V+ (power), 14 NO2, 15 COM2, 16 IN2

## MAX362CSE
designator IC?, comment ANALOG SWITCH
MPN: MAX362CSE; OC_FARNELL: unknown; OC_NEWARK: 77C9574
footprint SO16
pins: 1 IN1, 2 COM1, 3 NO1, 4 V- (power), 5 GND (power), 6 NO4, 7 COM4, 8 IN4, 9 IN3, 10 COM3, 11 NO3, 12 NC, 13 V+ (power), 14 NO2, 15 COM2, 16 IN2

## MAX364CPE
designator IC?, comment ANALOG SWITCH
MPN: MAX364CPE; OC_FARNELL: unknown; OC_NEWARK: 77C9579
footprint DIL16
pins: 1 IN1, 2 COM1, 3 NC1, 4 V- (power), 5 GND (power), 6 NC4, 7 COM4, 8 IN4, 9 IN3, 10 COM3, 11 NC3, 12 VL (power), 13 V+ (power), 14 NC2, 15 COM2, 16 IN2

## MAX364CSE
designator IC?, comment ANALOG SWITCH
MPN: MAX364CSE+; MF: MAXIM; OC_FARNELL: unknown; OC_NEWARK: 28K3314
footprint SO16
pins: 1 IN1, 2 COM1, 3 NC1, 4 V- (power), 5 GND (power), 6 NC4, 7 COM4, 8 IN4, 9 IN3, 10 COM3, 11 NC3, 12 VL (power), 13 V+ (power), 14 NC2, 15 COM2, 16 IN2

## MAX365CPE
designator IC?, comment ANALOG SWITCH
OC_FARNELL: unknown; OC_NEWARK: unknown
footprint DIL16
pins: 1 IN1, 2 COM1, 3 NO1, 4 V- (power), 5 GND (power), 6 NO4, 7 COM4, 8 IN4, 9 IN3, 10 COM3, 11 NO3, 12 VL (power), 13 V+ (power), 14 NO2, 15 COM2, 16 IN2

## MAX365CSE
designator IC?, comment ANALOG SWITCH
MPN: MAX365CSE+; MF: MAXIM; OC_FARNELL: 1290849; OC_NEWARK: 37K7932
footprint SO16
pins: 1 IN1, 2 COM1, 3 NO1, 4 V- (power), 5 GND (power), 6 NO4, 7 COM4, 8 IN4, 9 IN3, 10 COM3, 11 NO3, 12 VL (power), 13 V+ (power), 14 NO2, 15 COM2, 16 IN2

## MAX366CPA
designator IC?, comment Signal-line CIRCUIT PROTECTOR
MPN: MAX366CPA+; OC_FARNELL: unknown; OC_NEWARK: 99K3305
footprint DIL08
pins: 1 IN1, 2 IN2, 3 IN3, 4 V- (power), 5 OUT3, 6 OUT2, 7 OUT1, 8 V+ (power)

## MAX366CSA
designator IC?, comment Signal-line CIRCUIT PROTECTOR
MPN: MAX366CSA+; OC_FARNELL: unknown; OC_NEWARK: 68K4674
footprint SO08
pins: 1 IN1, 2 IN2, 3 IN3, 4 V- (power), 5 OUT3, 6 OUT2, 7 OUT1, 8 V+ (power)

## MAX367CPN
designator IC?, comment Signal-line CIRCUIT PROTECTOR
MPN: MAX367CPN+; OC_FARNELL: unknown; OC_NEWARK: 89K3625
footprint DIL18
pins: 1 IN1, 2 IN2, 3 IN3, 4 IN4, 5 IN5, 6 IN6, 7 IN7, 8 IN8, 9 V- (power), 10 OUT8, 11 OUT7, 12 OUT6, 13 OUT5, 14 OUT4, 15 OUT3, 16 OUT2, 17 OUT1, 18 V+ (power)

## MAX367CWN
designator IC?, comment Signal-line CIRCUIT PROTECTORr
MPN: MAX367CWN+; OC_FARNELL: unknown; OC_NEWARK: 89K3626
footprint SO18L
pins: 1 IN1, 2 IN2, 3 IN3, 4 IN4, 5 IN5, 6 IN6, 7 IN7, 8 IN8, 9 V- (power), 10 OUT8, 11 OUT7, 12 OUT6, 13 OUT5, 14 OUT4, 15 OUT3, 16 OUT2, 17 OUT1, 18 V+ (power)

## MAX368CPN
designator IC?, comment MULTIPLEXER
MPN: MAX368CPN+; OC_FARNELL: unknown; OC_NEWARK: 99K3306
footprint DIL18
pins: 1 WR, 2 A0, 3 EN, 4 V- (power), 5 IN1, 6 IN2, 7 IN3, 8 IN4, 9 OUT, 10 IN8, 11 IN7, 12 IN6, 13 IN5, 14 V+ (power), 15 GND (power), 16 A2, 17 A1, 18 RS

## MAX369CPN
designator IC?, comment MULTIPLEXER
MPN: MAX369CPN+; OC_FARNELL: unknown; OC_NEWARK: 50M1304
footprint DIL18
pins: 1 WR, 2 A0, 3 EN, 4 V- (power), 5 IN1A, 6 IN2A, 7 IN3A, 8 IN4A, 9 OUTA, 10 OUTB, 11 IN4B, 12 IN3B, 13 IN2B, 14 IN1B, 15 V+ (power), 16 GND (power), 17 A1, 18 RS

## MAX378CPE
designator IC?, comment MULTIPLEXER
MPN: MAX378CPE+; OC_FARNELL: unknown; OC_NEWARK: 13M2216
footprint DIL16
pins: 1 A0, 2 EN, 3 V- (power), 4 IN1, 5 IN2, 6 IN3, 7 IN4, 8 OUT, 9 IN8, 10 IN7, 11 IN6, 12 IN5, 13 V+ (power), 14 GND (power), 15 A2, 16 A1

## MAX379CPE
designator IC?, comment MULTIPLEXER
MPN: MAX379CPE+; OC_FARNELL: unknown; OC_NEWARK: 03M8826
footprint DIL16
pins: 1 A0, 2 EN, 3 V- (power), 4 IN1A, 5 IN2A, 6 IN3A, 7 IN4A, 8 OUTA, 9 OUTB, 10 IN4B, 11 IN3B, 12 IN2B, 13 IN1B, 14 V+ (power), 15 GND (power), 16 A1

## MAX381CPE
designator IC?, comment ANALOG SWITCH
MPN: MAX381CPE+; OC_FARNELL: unknown; OC_NEWARK: 02P7736
footprint DIL16
pins: 1 COM1, 2 NC, 3 NC@1, 4 NC@2, 5 NC@3, 6 NC@4, 7 NC@5, 8 COM2, 9 NO2, 10 IN2, 11 V+ (power), 12 NC@6, 13 GND (power), 14 V- (power), 15 IN1, 16 NO1

## MAX381CSE
designator IC?, comment ANALOG SWITCH
MPN: MAX381CSE+; OC_FARNELL: unknown; OC_NEWARK: 02P7737
footprint SO16
pins: 1 COM1, 2 NC, 3 NC@1, 4 NC@2, 5 NC@3, 6 NC@4, 7 NC@5, 8 COM2, 9 NO2, 10 IN2, 11 V+ (power), 12 NC@6, 13 GND (power), 14 V- (power), 15 IN1, 16 NO1

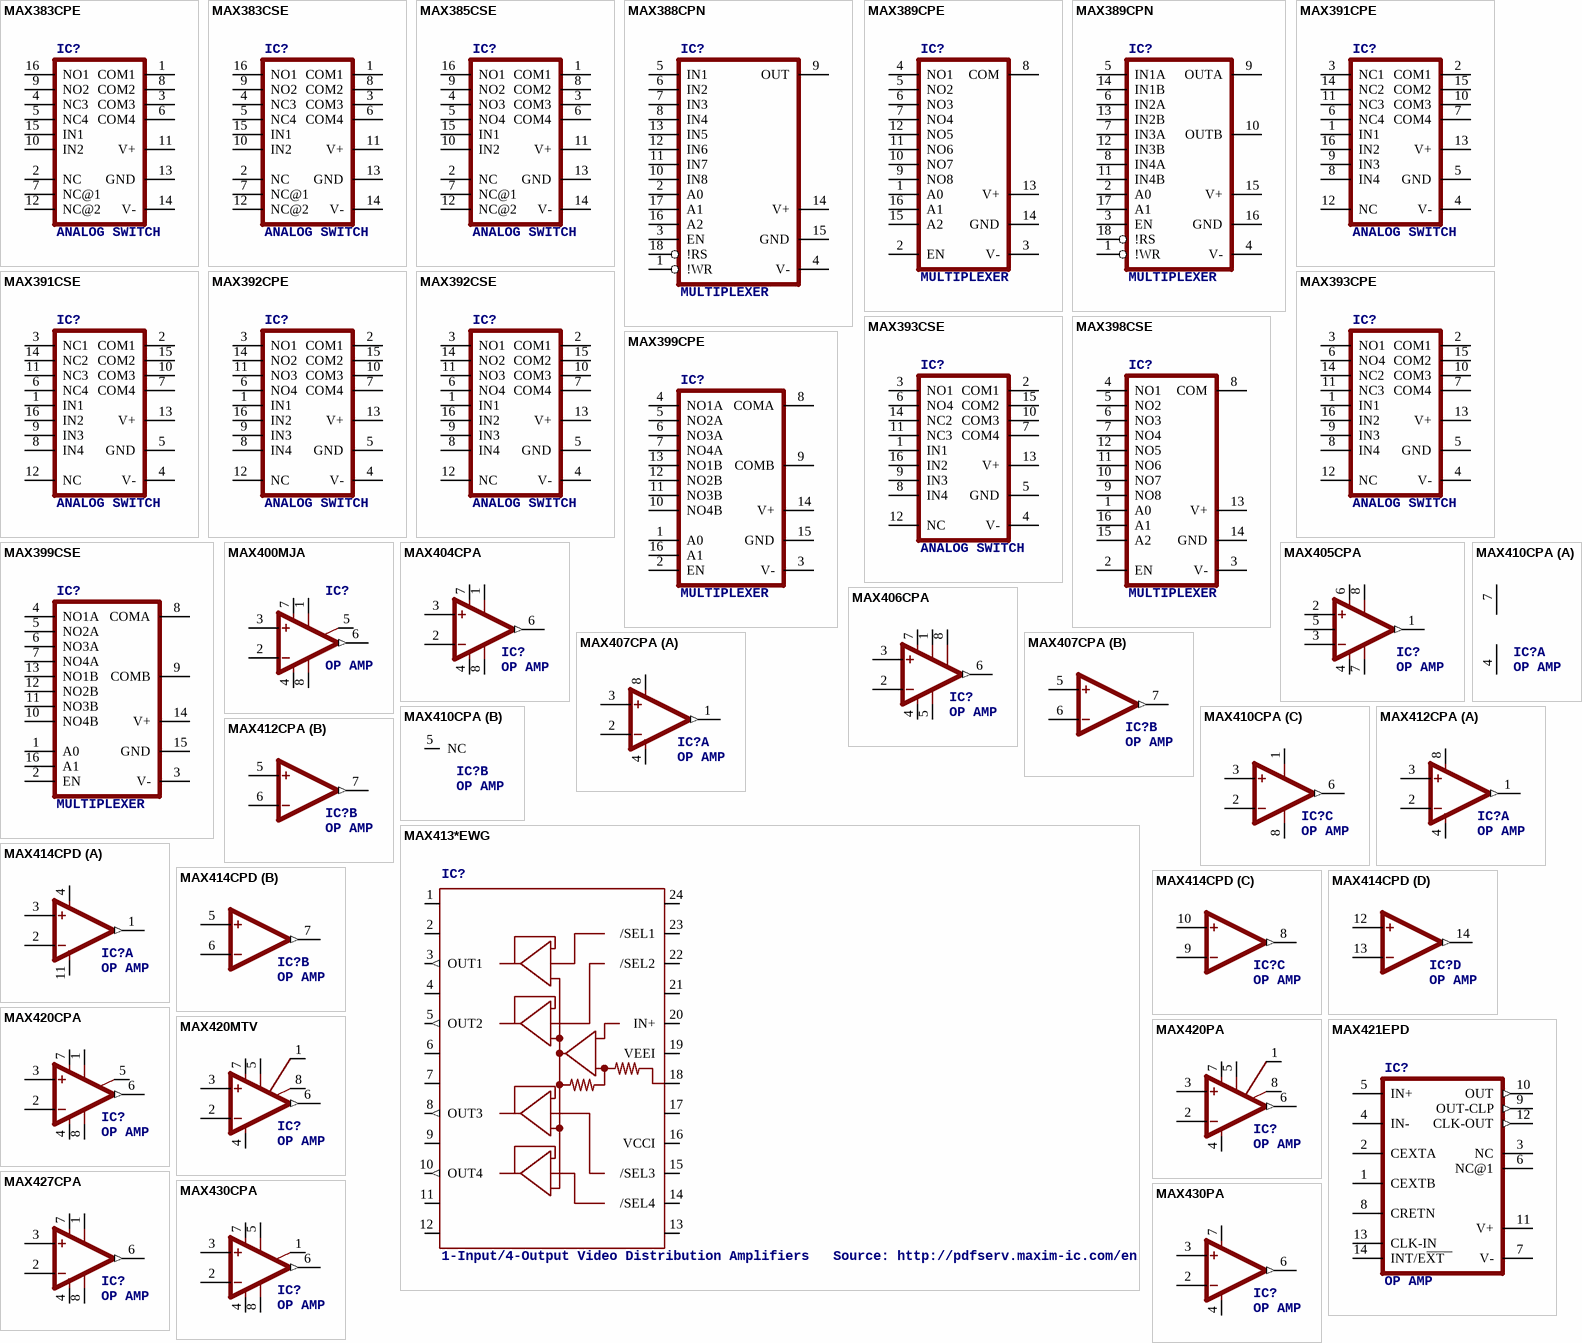
[diagram p16: symbols MAX383CPE to MAX430PA]

## MAX383CPE
designator IC?, comment ANALOG SWITCH
MPN: MAX383CPE+; OC_FARNELL: unknown; OC_NEWARK: 99K3309
footprint DIL16
pins: 1 COM1, 2 NC, 3 COM3, 4 NC3, 5 NC4, 6 COM4, 7 NC@1, 8 COM2, 9 NO2, 10 IN2, 11 V+ (power), 12 NC@2, 13 GND (power), 14 V- (power), 15 IN1, 16 NO1

## MAX383CSE
designator IC?, comment ANALOG SWITCH
MPN: MAX383CSE+; OC_FARNELL: unknown; OC_NEWARK: 68K4676
footprint SO16
pins: 1 COM1, 2 NC, 3 COM3, 4 NC3, 5 NC4, 6 COM4, 7 NC@1, 8 COM2, 9 NO2, 10 IN2, 11 V+ (power), 12 NC@2, 13 GND (power), 14 V- (power), 15 IN1, 16 NO1

## MAX385CSE
designator IC?, comment ANALOG SWITCH
MPN: MAX385CSE+; OC_FARNELL: unknown; OC_NEWARK: 76K6741
footprint SO16
pins: 1 COM1, 2 NC, 3 COM3, 4 NO3, 5 NO4, 6 COM4, 7 NC@1, 8 COM2, 9 NO2, 10 IN2, 11 V+ (power), 12 NC@2, 13 GND (power), 14 V- (power), 15 IN1, 16 NO1

## MAX388CPN
designator IC?, comment MULTIPLEXER
MPN: MAX388CPN+; OC_FARNELL: unknown; OC_NEWARK: 73K8562
footprint DIL18
pins: 1 !WR, 2 A0, 3 EN, 4 V- (power), 5 IN1, 6 IN2, 7 IN3, 8 IN4, 9 OUT, 10 IN8, 11 IN7, 12 IN6, 13 IN5, 14 V+ (power), 15 GND (power), 16 A2, 17 A1, 18 !RS

## MAX389CPE
designator IC?, comment MULTIPLEXER
OC_FARNELL: unknown; OC_NEWARK: unknown
footprint DIL16
pins: 1 A0, 2 EN, 3 V- (power), 4 NO1, 5 NO2, 6 NO3, 7 NO4, 8 COM, 9 NO8, 10 NO7, 11 NO6, 12 NO5, 13 V+ (power), 14 GND (power), 15 A2, 16 A1

## MAX389CPN
designator IC?, comment MULTIPLEXER
MPN: MAX389CPN+; OC_FARNELL: unknown; OC_NEWARK: 13M2221
footprint DIL18
pins: 1 !WR, 2 A0, 3 EN, 4 V- (power), 5 IN1A, 6 IN2A, 7 IN3A, 8 IN4A, 9 OUTA, 10 OUTB, 11 IN4B, 12 IN3B, 13 IN2B, 14 IN1B, 15 V+ (power), 16 GND (power), 17 A1, 18 !RS

## MAX391CPE
designator IC?, comment ANALOG SWITCH
MPN: MAX391CPE+; OC_FARNELL: unknown; OC_NEWARK: 99K3320
footprint DIL16
pins: 1 IN1, 2 COM1, 3 NC1, 4 V- (power), 5 GND (power), 6 NC4, 7 COM4, 8 IN4, 9 IN3, 10 COM3, 11 NC3, 12 NC, 13 V+ (power), 14 NC2, 15 COM2, 16 IN2

## MAX391CSE
designator IC?, comment ANALOG SWITCH
MPN: MAX391CSE; MF: MAXIM; OC_FARNELL: unknown; OC_NEWARK: 77C9748
footprint SO16
pins: 1 IN1, 2 COM1, 3 NC1, 4 V- (power), 5 GND (power), 6 NC4, 7 COM4, 8 IN4, 9 IN3, 10 COM3, 11 NC3, 12 NC, 13 V+ (power), 14 NC2, 15 COM2, 16 IN2

## MAX392CPE
designator IC?, comment ANALOG SWITCH
MPN: MAX392CPE+; OC_FARNELL: unknown; OC_NEWARK: 28M0363
footprint DIL16
pins: 1 IN1, 2 COM1, 3 NO1, 4 V- (power), 5 GND (power), 6 NO4, 7 COM4, 8 IN4, 9 IN3, 10 COM3, 11 NO3, 12 NC, 13 V+ (power), 14 NO2, 15 COM2, 16 IN2

## MAX392CSE
designator IC?, comment ANALOG SWITCH
MPN: MAX392CSE; OC_FARNELL: 1187952; OC_NEWARK: 90C3179
footprint SO16
pins: 1 IN1, 2 COM1, 3 NO1, 4 V- (power), 5 GND (power), 6 NO4, 7 COM4, 8 IN4, 9 IN3, 10 COM3, 11 NO3, 12 NC, 13 V+ (power), 14 NO2, 15 COM2, 16 IN2

## MAX393CPE
designator IC?, comment ANALOG SWITCH
MPN: MAX393CPE+; OC_FARNELL: unknown; OC_NEWARK: 03M8829
footprint DIL16
pins: 1 IN1, 2 COM1, 3 NO1, 4 V- (power), 5 GND (power), 6 NO4, 7 COM4, 8 IN4, 9 IN3, 10 COM3, 11 NC3, 12 NC, 13 V+ (power), 14 NC2, 15 COM2, 16 IN2

## MAX393CSE
designator IC?, comment ANALOG SWITCH
MPN: MAX393CSE+; MF: MAXIM; OC_FARNELL: 1787327; OC_NEWARK: 53K6776
footprint SO16
pins: 1 IN1, 2 COM1, 3 NO1, 4 V- (power), 5 GND (power), 6 NO4, 7 COM4, 8 IN4, 9 IN3, 10 COM3, 11 NC3, 12 NC, 13 V+ (power), 14 NC2, 15 COM2, 16 IN2

## MAX398CSE
designator IC?, comment MULTIPLEXER
MPN: MAX398CSE+; OC_FARNELL: unknown; OC_NEWARK: 89K3646
footprint SO16
pins: 1 A0, 2 EN, 3 V- (power), 4 NO1, 5 NO2, 6 NO3, 7 NO4, 8 COM, 9 NO8, 10 NO7, 11 NO6, 12 NO5, 13 V+ (power), 14 GND (power), 15 A2, 16 A1

## MAX399CPE
designator IC?, comment MULTIPLEXER
MPN: MAX399CPE+; OC_FARNELL: unknown; OC_NEWARK: 19M9619
footprint DIL16
pins: 1 A0, 2 EN, 3 V- (power), 4 NO1A, 5 NO2A, 6 NO3A, 7 NO4A, 8 COMA, 9 COMB, 10 NO4B, 11 NO3B, 12 NO2B, 13 NO1B, 14 V+ (power), 15 GND (power), 16 A1

## MAX399CSE
designator IC?, comment MULTIPLEXER
MPN: MAX399CSE; MF: MAXIM; OC_FARNELL: unknown; OC_NEWARK: 77C9798
footprint SO16
pins: 1 A0, 2 EN, 3 V- (power), 4 NO1A, 5 NO2A, 6 NO3A, 7 NO4A, 8 COMA, 9 COMB, 10 NO4B, 11 NO3B, 12 NO2B, 13 NO1B, 14 V+ (power), 15 GND (power), 16 A1

## MAX400MJA
designator IC?, comment OP AMP
OC_FARNELL: unknown; OC_NEWARK: unknown
footprint DIL08
pins: 1 VOS, 2 -IN, 3 +IN, 4 V- (power), 5 NC, 6 OUT (out), 7 V+ (power), 8 VOS@1

## MAX404CPA
designator IC?, comment OP AMP
OC_FARNELL: unknown; OC_NEWARK: unknown
footprint DIL08
pins: 1 VT1, 2 -IN, 3 +IN, 4 V- (power), 6 OUT (out), 7 V+ (power), 8 VT2

## MAX405CPA
designator IC?, comment OP AMP
OC_FARNELL: unknown; OC_NEWARK: unknown
footprint DIL08
pins: 1 OUT (out), 2 +IN, 3 -IN, 4 V- (power), 5 NULL, 6 V+ (power), 7 VC-, 8 VC+